# Altium schematic symbol library conn_terminalB.SchLib: 523 symbols (part 2 of 4)
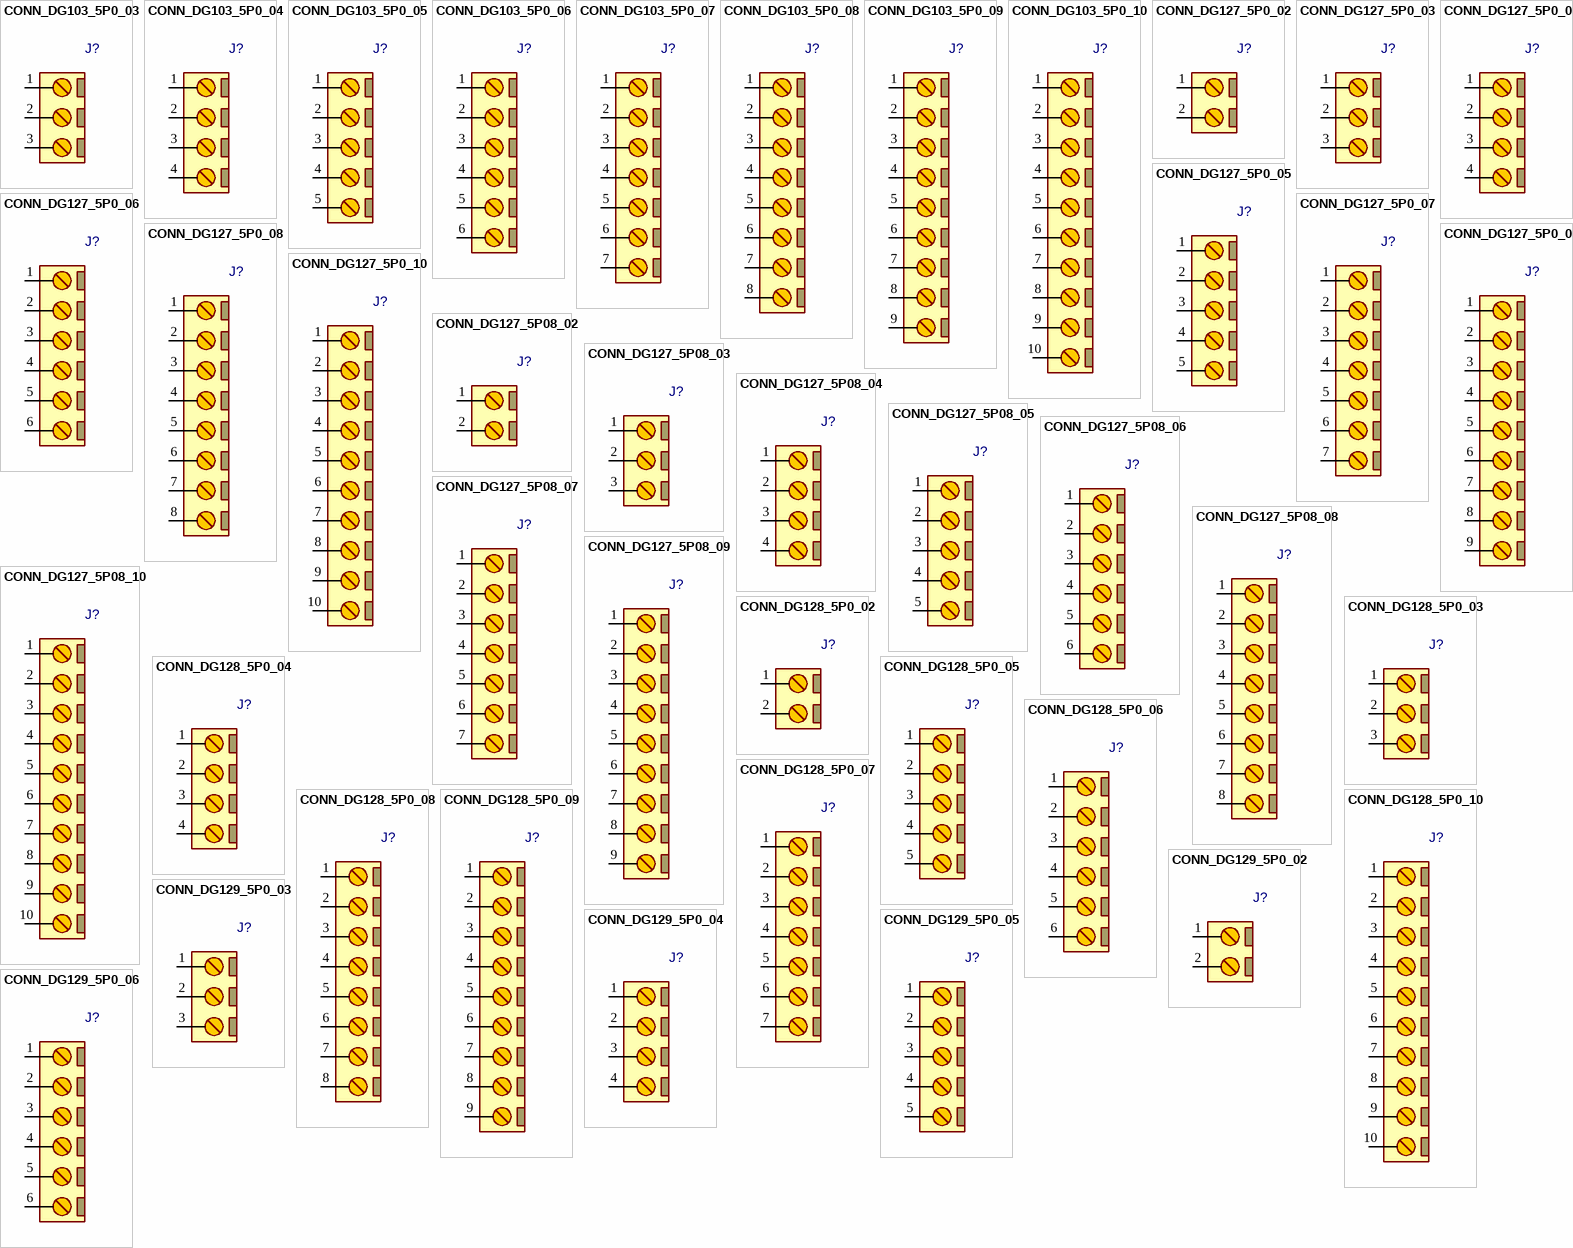
[diagram p14: symbols CONN_DG103_5P0_03 to CONN_DG129_5P0_06]

## CONN_DG103_5P0_07
designator J?, comment DG103_5P0_07  (value not drawn)
Terminal Block Screw, Pitch 5mm, 45°, H 13.8mm; MANF: DEGSON; MANF_P#: DG103-5.0-07P; PARAM2: 250v, -40~105°C; PARAM: 20A; VALUE: DG103_5P0_07; Mount Type: THT; Type: Conn.
footprint DG103_5P0_07 (Terminal Block 45° Screw, Pitch 5mm, L15mm)
pins: 1, 2, 3, 4, 5, 6, 7

## CONN_DG103_5P0_08
designator J?, comment DG103_5P0_08  (value not drawn)
Terminal Block Screw, Pitch 5mm, 45°, H 13.8mm; MANF: DEGSON; MANF_P#: DG103-5.0-08P; PARAM2: 250v, -40~105°C; PARAM: 20A; VALUE: DG103_5P0_08; Mount Type: THT; Type: Conn.
footprint DG103_5P0_08 (Terminal Block 45° Screw, Pitch 5mm, L15mm)
pins: 1, 2, 3, 4, 5, 6, 7, 8

## CONN_DG103_5P0_09
designator J?, comment DG103_5P0_09  (value not drawn)
Terminal Block Screw, Pitch 5mm, 45°, H 13.8mm; MANF: DEGSON; MANF_P#: DG103-5.0-09P; PARAM2: 250v, -40~105°C; PARAM: 20A; VALUE: DG103_5P0_09; Mount Type: THT; Type: Conn.
footprint DG103_5P0_09 (Terminal Block 45° Screw, Pitch 5mm, L15mm)
pins: 1, 2, 3, 4, 5, 6, 7, 8, 9

## CONN_DG103_5P0_10
designator J?, comment DG103_5P0_10  (value not drawn)
Terminal Block Screw, Pitch 5mm, 45°, H 13.8mm; MANF: DEGSON; MANF_P#: DG103-5.0-10P; PARAM2: 250v, -40~105°C; PARAM: 20A; VALUE: DG103_5P0_10; Mount Type: THT; Type: Conn.
footprint DG103_5P0_10 (Terminal Block 45° Screw, Pitch 5mm, L15mm)
pins: 1, 2, 3, 4, 5, 6, 7, 8, 9, 10

## CONN_DG127_5P0_02
designator J?, comment DG127_5P0_02  (value not drawn)
Terminal Block Screw, Pitch 5mm, H 10mm; MANF: DEGSON; MANF_P#: DG127-5.0-02P, KF127-5.0-2P; PARAM2: 250v, -40~105°C; PARAM: 12A; VALUE: DG127_5P0_02; Mount Type: THT; Type: Conn.
footprint DG127_5P0_02 (Terminal Block Screw, Pitch 5mm, H10mm, DG127-5.0-xxP)
pins: 1, 2

## CONN_DG127_5P0_03
designator J?, comment DG127_5P0_03  (value not drawn)
Terminal Block Screw, Pitch 5mm, H 10mm; MANF: DEGSON; MANF_P#: DG127-5.0-03P, KF127-5.0-3P; PARAM2: 250v, -40~105°C; PARAM: 12A; VALUE: DG127_5P0_03; Mount Type: THT; Type: Conn.
footprint DG127_5P0_03 (Terminal Block Screw, Pitch 5mm, H10mm, DG127-5.0-xxP)
pins: 1, 2, 3

## CONN_DG127_5P0_04
designator J?, comment DG127_5P0_04  (value not drawn)
Terminal Block Screw, Pitch 5mm, H 10mm; MANF: DEGSON; MANF_P#: DG127-5.0-04P, KF127-5.0-4P; PARAM2: 250v, -40~105°C; PARAM: 12A; VALUE: DG127_5P0_04; Mount Type: THT; Type: Conn.
footprint DG127_5P0_04 (Terminal Block Screw, Pitch 5mm, H10mm, DG127-5.0-xxP)
pins: 1, 2, 3, 4

## CONN_DG127_5P0_05
designator J?, comment DG127_5P0_05  (value not drawn)
Terminal Block Screw, Pitch 5mm, H 10mm; MANF: DEGSON; MANF_P#: DG127-5.0-05P, KF127-5.0-5P; PARAM2: 250v, -40~105°C; PARAM: 12A; VALUE: DG127_5P0_05; Mount Type: THT; Type: Conn.
footprint DG127_5P0_05 (Terminal Block Screw, Pitch 5mm, H10mm, DG127-5.0-xxP)
pins: 1, 2, 3, 4, 5

## CONN_DG127_5P0_06
designator J?, comment DG127_5P0_06  (value not drawn)
Terminal Block Screw, Pitch 5mm, H 10mm; MANF: DEGSON; MANF_P#: DG127-5.0-06P, KF127-5.0-6P; PARAM2: 250v, -40~105°C; PARAM: 12A; VALUE: DG127_5P0_06; Mount Type: THT; Type: Conn.
footprint DG127_5P0_06 (Terminal Block Screw, Pitch 5mm, H10mm, DG127-5.0-xxP)
pins: 1, 2, 3, 4, 5, 6

## CONN_DG127_5P0_07
designator J?, comment DG127_5P0_07  (value not drawn)
Terminal Block Screw, Pitch 5mm, H 10mm; MANF: DEGSON; MANF_P#: DG127-5.0-07P, KF127-5.0-7P; PARAM2: 250v, -40~105°C; PARAM: 12A; VALUE: DG127_5P0_07; Mount Type: THT; Type: Conn.
footprint DG127_5P0_07 (Terminal Block Screw, Pitch 5mm, H10mm, DG127-5.0-xxP)
pins: 1, 2, 3, 4, 5, 6, 7

## CONN_DG127_5P0_08
designator J?, comment DG127_5P0_08  (value not drawn)
Terminal Block Screw, Pitch 5mm, H 10mm; MANF: DEGSON; MANF_P#: DG127-5.0-08P, KF127-5.0-8P; PARAM2: 250v, -40~105°C; PARAM: 12A; VALUE: DG127_5P0_08; Mount Type: THT; Type: Conn.
footprint DG127_5P0_08 (Terminal Block Screw, Pitch 5mm, H10mm, DG127-5.0-xxP)
pins: 1, 2, 3, 4, 5, 6, 7, 8

## CONN_DG127_5P0_09
designator J?, comment DG127_5P0_09  (value not drawn)
Terminal Block Screw, Pitch 5mm, H 10mm; MANF: DEGSON; MANF_P#: DG127-5.0-09P, KF127-5.0-9P; PARAM2: 250v, -40~105°C; PARAM: 12A; VALUE: DG127_5P0_09; Mount Type: THT; Type: Conn.
footprint DG127_5P0_09 (Terminal Block Screw, Pitch 5mm, H10mm, DG127-5.0-xxP)
pins: 1, 2, 3, 4, 5, 6, 7, 8, 9

## CONN_DG127_5P0_10
designator J?, comment DG127_5P0_10  (value not drawn)
Terminal Block Screw, Pitch 5mm, H 10mm; MANF: DEGSON; MANF_P#: DG127-5.0-10P, KF127-5.0-10P; PARAM2: 250v, -40~105°C; PARAM: 12A; VALUE: DG127_5P0_10; Mount Type: THT; Type: Conn.
footprint DG127_5P0_10 (Terminal Block Screw, Pitch 5mm, H10mm, DG127-5.0-xxP)
pins: 1, 2, 3, 4, 5, 6, 7, 8, 9, 10

## CONN_DG127_5P08_02
designator J?, comment DG127_5P08_02  (value not drawn)
Terminal Block Screw, Pitch 5.08mm, H 10mm; MANF: DEGSON; MANF_P#: DG127-5.08-02P, KF127-5.08-2P; PARAM2: 250v, -40~105°C; PARAM: 12A; VALUE: DG127_5P08_02; Mount Type: THT; Type: Conn.
footprint DG127_5P08_02 (Terminal Block Screw, Pitch 5mm, H10mm, DG127-5.08-xxP)
pins: 1, 2

## CONN_DG127_5P08_03
designator J?, comment DG127_5P08_03  (value not drawn)
Terminal Block Screw, Pitch 5.08mm, H 10mm; MANF: DEGSON; MANF_P#: DG127-5.08-03P, KF127-5.08-3P; PARAM2: 250v, -40~105°C; PARAM: 12A; VALUE: DG127_5P08_03; Mount Type: THT; Type: Conn.
footprint DG127_5P08_03 (Terminal Block Screw, Pitch 5mm, H10mm, DG127-5.08-xxP)
pins: 1, 2, 3

## CONN_DG127_5P08_04
designator J?, comment DG127_5P08_04  (value not drawn)
Terminal Block Screw, Pitch 5.08mm, H 10mm; MANF: DEGSON; MANF_P#: DG127-5.08-04P, KF127-5.08-4P; PARAM2: 250v, -40~105°C; PARAM: 12A; VALUE: DG127_5P08_04; Mount Type: THT; Type: Conn.
footprint DG127_5P08_04 (Terminal Block Screw, Pitch 5mm, H10mm, DG127-5.08-xxP)
pins: 1, 2, 3, 4

## CONN_DG127_5P08_05
designator J?, comment DG127_5P08_05  (value not drawn)
Terminal Block Screw, Pitch 5.08mm, H 10mm; MANF: DEGSON; MANF_P#: DG127-5.08-05P, KF127-5.08-5P; PARAM2: 250v, -40~105°C; PARAM: 12A; VALUE: DG127_5P08_05; Mount Type: THT; Type: Conn.
footprint DG127_5P08_05 (Terminal Block Screw, Pitch 5mm, H10mm, DG127-5.08-xxP)
pins: 1, 2, 3, 4, 5

## CONN_DG127_5P08_06
designator J?, comment DG127_5P08_06  (value not drawn)
Terminal Block Screw, Pitch 5.08mm, H 10mm; MANF: DEGSON; MANF_P#: DG127-5.08-06P, KF127-5.08-6P; PARAM2: 250v, -40~105°C; PARAM: 12A; VALUE: DG127_5P08_06; Mount Type: THT; Type: Conn.
footprint DG127_5P08_06 (Terminal Block Screw, Pitch 5mm, H10mm, DG127-5.08-xxP)
pins: 1, 2, 3, 4, 5, 6

## CONN_DG127_5P08_07
designator J?, comment DG127_5P08_07  (value not drawn)
Terminal Block Screw, Pitch 5.08mm, H 10mm; MANF: DEGSON; MANF_P#: DG127-5.08-07P, KF127-5.08-7P; PARAM2: 250v, -40~105°C; PARAM: 12A; VALUE: DG127_5P08_07; Mount Type: THT; Type: Conn.
footprint DG127_5P08_07 (Terminal Block Screw, Pitch 5mm, H10mm, DG127-5.08-xxP)
pins: 1, 2, 3, 4, 5, 6, 7

## CONN_DG127_5P08_08
designator J?, comment DG127_5P08_08  (value not drawn)
Terminal Block Screw, Pitch 5.08mm, H 10mm; MANF: DEGSON; MANF_P#: DG127-5.08-08P, KF127-5.08-8P; PARAM2: 250v, -40~105°C; PARAM: 12A; VALUE: DG127_5P08_08; Mount Type: THT; Type: Conn.
footprint DG127_5P08_08 (Terminal Block Screw, Pitch 5mm, H10mm, DG127-5.08-xxP)
pins: 1, 2, 3, 4, 5, 6, 7, 8

## CONN_DG127_5P08_09
designator J?, comment DG127_5P08_09  (value not drawn)
Terminal Block Screw, Pitch 5.08mm, H 10mm; MANF: DEGSON; MANF_P#: DG127-5.08-09P, KF127-5.08-9P; PARAM2: 250v, -40~105°C; PARAM: 12A; VALUE: DG127_5P08_09; Mount Type: THT; Type: Conn.
footprint DG127_5P08_09 (Terminal Block Screw, Pitch 5mm, H10mm, DG127-5.08-xxP)
pins: 1, 2, 3, 4, 5, 6, 7, 8, 9

## CONN_DG127_5P08_10
designator J?, comment DG127_5P08_10  (value not drawn)
Terminal Block Screw, Pitch 5.08mm, H 10mm; MANF: DEGSON; MANF_P#: DG127-5.08-10P, KF127-5.08-10P; PARAM2: 250v, -40~105°C; PARAM: 12A; VALUE: DG127_5P08_10; Mount Type: THT; Type: Conn.
footprint DG127_5P08_10 (Terminal Block Screw, Pitch 5mm, H10mm, DG127-5.08-xxP)
pins: 1, 2, 3, 4, 5, 6, 7, 8, 9, 10

## CONN_DG128_5P0_02
designator J?, comment DG128_5P0_02  (value not drawn)
Terminal Block Screw, Pitch 5mm, H 14.1mm; MANF: DEGSON; MANF_P#: DG128-5.0-02P, KF128-5.0-2P; PARAM2: 250v, -40~105°C; PARAM: 18A; VALUE: DG128_5P0_02; Mount Type: THT; Type: Conn.
footprint DG128_5P0_02 (Terminal Block, Pitch 5mm, 20A/300v)
pins: 1, 2

## CONN_DG128_5P0_03
designator J?, comment DG128_5P0_03  (value not drawn)
Terminal Block Screw, Pitch 5mm, H 14.1mm; MANF: DEGSON; MANF_P#: DG128-5.0-03P, KF128-5.0-3P; PARAM2: 250v, -40~105°C; PARAM: 18A; VALUE: DG128_5P0_03; Mount Type: THT; Type: Conn.
footprint DG128_5P0_03 (Terminal Block, Pitch 5mm, 20A/300v)
pins: 1, 2, 3

## CONN_DG128_5P0_04
designator J?, comment DG128_5P0_04  (value not drawn)
Terminal Block Screw, Pitch 5mm, H 14.1mm; MANF: DEGSON; MANF_P#: DG128-5.0-04P, KF128-5.0-4P; PARAM2: 250v, -40~105°C; PARAM: 18A; VALUE: DG128_5P0_04; Mount Type: THT; Type: Conn.
footprint DG128_5P0_04 (Terminal Block, Pitch 5mm, 20A/300v)
pins: 1, 2, 3, 4

## CONN_DG128_5P0_05
designator J?, comment DG128_5P0_05  (value not drawn)
Terminal Block Screw, Pitch 5mm, H 14.1mm; MANF: DEGSON; MANF_P#: DG128-5.0-05P, KF128-5.0-5P; PARAM2: 250v, -40~105°C; PARAM: 18A; VALUE: DG128_5P0_05; Mount Type: THT; Type: Conn.
footprint DG128_5P0_05 (Terminal Block, Pitch 5mm, 20A/300v)
pins: 1, 2, 3, 4, 5

## CONN_DG128_5P0_06
designator J?, comment DG128_5P0_06  (value not drawn)
Terminal Block Screw, Pitch 5mm, H 14.1mm; MANF: DEGSON; MANF_P#: DG128-5.0-06P, KF128-5.0-6P; PARAM2: 250v, -40~105°C; PARAM: 18A; VALUE: DG128_5P0_06; Mount Type: THT; Type: Conn.
footprint DG128_5P0_06 (Terminal Block, Pitch 5mm, 20A/300v)
pins: 1, 2, 3, 4, 5, 6

## CONN_DG128_5P0_07
designator J?, comment DG128_5P0_07  (value not drawn)
Terminal Block Screw, Pitch 5mm, H 14.1mm; MANF: DEGSON; MANF_P#: DG128-5.0-07P, KF128-5.0-7P; PARAM2: 250v, -40~105°C; PARAM: 18A; VALUE: DG128_5P0_07; Mount Type: THT; Type: Conn.
footprint DG128_5P0_07 (Terminal Block, Pitch 5mm, 20A/300v)
pins: 1, 2, 3, 4, 5, 6, 7

## CONN_DG128_5P0_08
designator J?, comment DG128_5P0_08  (value not drawn)
Terminal Block Screw, Pitch 5mm, H 14.1mm; MANF: DEGSON; MANF_P#: DG128-5.0-08P, KF128-5.0-8P; PARAM2: 250v, -40~105°C; PARAM: 18A; VALUE: DG128_5P0_08; Mount Type: THT; Type: Conn.
footprint DG128_5P0_08 (Terminal Block, Pitch 5mm, 20A/300v)
pins: 1, 2, 3, 4, 5, 6, 7, 8

## CONN_DG128_5P0_09
designator J?, comment DG128_5P0_09  (value not drawn)
Terminal Block Screw, Pitch 5mm, H 14.1mm; MANF: DEGSON; MANF_P#: DG128-5.0-09P, KF128-5.0-9P; PARAM2: 250v, -40~105°C; PARAM: 18A; VALUE: DG128_5P0_09; Mount Type: THT; Type: Conn.
footprint DG128_5P0_09 (Terminal Block, Pitch 5mm, 20A/300v)
pins: 1, 2, 3, 4, 5, 6, 7, 8, 9

## CONN_DG128_5P0_10
designator J?, comment DG128_5P0_10  (value not drawn)
Terminal Block Screw, Pitch 5mm, H 14.1mm; MANF: DEGSON; MANF_P#: DG128-5.0-10P, KF128-5.0-10P; PARAM2: 250v, -40~105°C; PARAM: 18A; VALUE: DG128_5P0_10; Mount Type: THT; Type: Conn.
footprint DG128_5P0_10 (Terminal Block, Pitch 5mm, 20A/300v)
pins: 1, 2, 3, 4, 5, 6, 7, 8, 9, 10

## CONN_DG129_5P0_02
designator J?, comment DG129_5P0_02  (value not drawn)
Terminal Block Screw, Pitch 5mm, H 19.5mm; MANF: DEGSON; MANF_P#: DG129-5.0-02P, KF129-5.0-2P; PARAM2: 250v, -40~105°C; PARAM: 20A; VALUE: DG129_5P0_02; Mount Type: THT; Type: Conn.
footprint DG129_5P0_02 (Terminal Block Screw, Pitch 5mm, H20mm)
pins: 1, 2

## CONN_DG129_5P0_03
designator J?, comment DG129_5P0_03  (value not drawn)
Terminal Block Screw, Pitch 5mm, H 19.5mm; MANF: DEGSON; MANF_P#: DG129-5.0-03P, KF129-5.0-3P; PARAM2: 250v, -40~105°C; PARAM: 20A; VALUE: DG129_5P0_03; Mount Type: THT; Type: Conn.
footprint DG129_5P0_03 (Terminal Block Screw, Pitch 5mm, H20mm)
pins: 1, 2, 3

## CONN_DG129_5P0_04
designator J?, comment DG129_5P0_04  (value not drawn)
Terminal Block Screw, Pitch 5mm, H 19.5mm; MANF: DEGSON; MANF_P#: DG129-5.0-04P, KF129-5.0-4P; PARAM2: 250v, -40~105°C; PARAM: 20A; VALUE: DG129_5P0_04; Mount Type: THT; Type: Conn.
footprint DG129_5P0_04 (Terminal Block Screw, Pitch 5mm, H20mm)
pins: 1, 2, 3, 4

## CONN_DG129_5P0_05
designator J?, comment DG129_5P0_05  (value not drawn)
Terminal Block Screw, Pitch 5mm, H 19.5mm; MANF: DEGSON; MANF_P#: DG129-5.0-05P, KF129-5.0-5P; PARAM2: 250v, -40~105°C; PARAM: 20A; VALUE: DG129_5P0_05; Mount Type: THT; Type: Conn.
footprint DG129_5P0_05 (Terminal Block Screw, Pitch 5mm, H20mm)
pins: 1, 2, 3, 4, 5

## CONN_DG129_5P0_06
designator J?, comment DG129_5P0_06  (value not drawn)
Terminal Block Screw, Pitch 5mm, H 19.5mm; MANF: DEGSON; MANF_P#: DG129-5.0-06P, KF129-5.0-6P; PARAM2: 250v, -40~105°C; PARAM: 20A; VALUE: DG129_5P0_06; Mount Type: THT; Type: Conn.
footprint DG129_5P0_06 (Terminal Block Screw, Pitch 5mm, H20mm)
pins: 1, 2, 3, 4, 5, 6

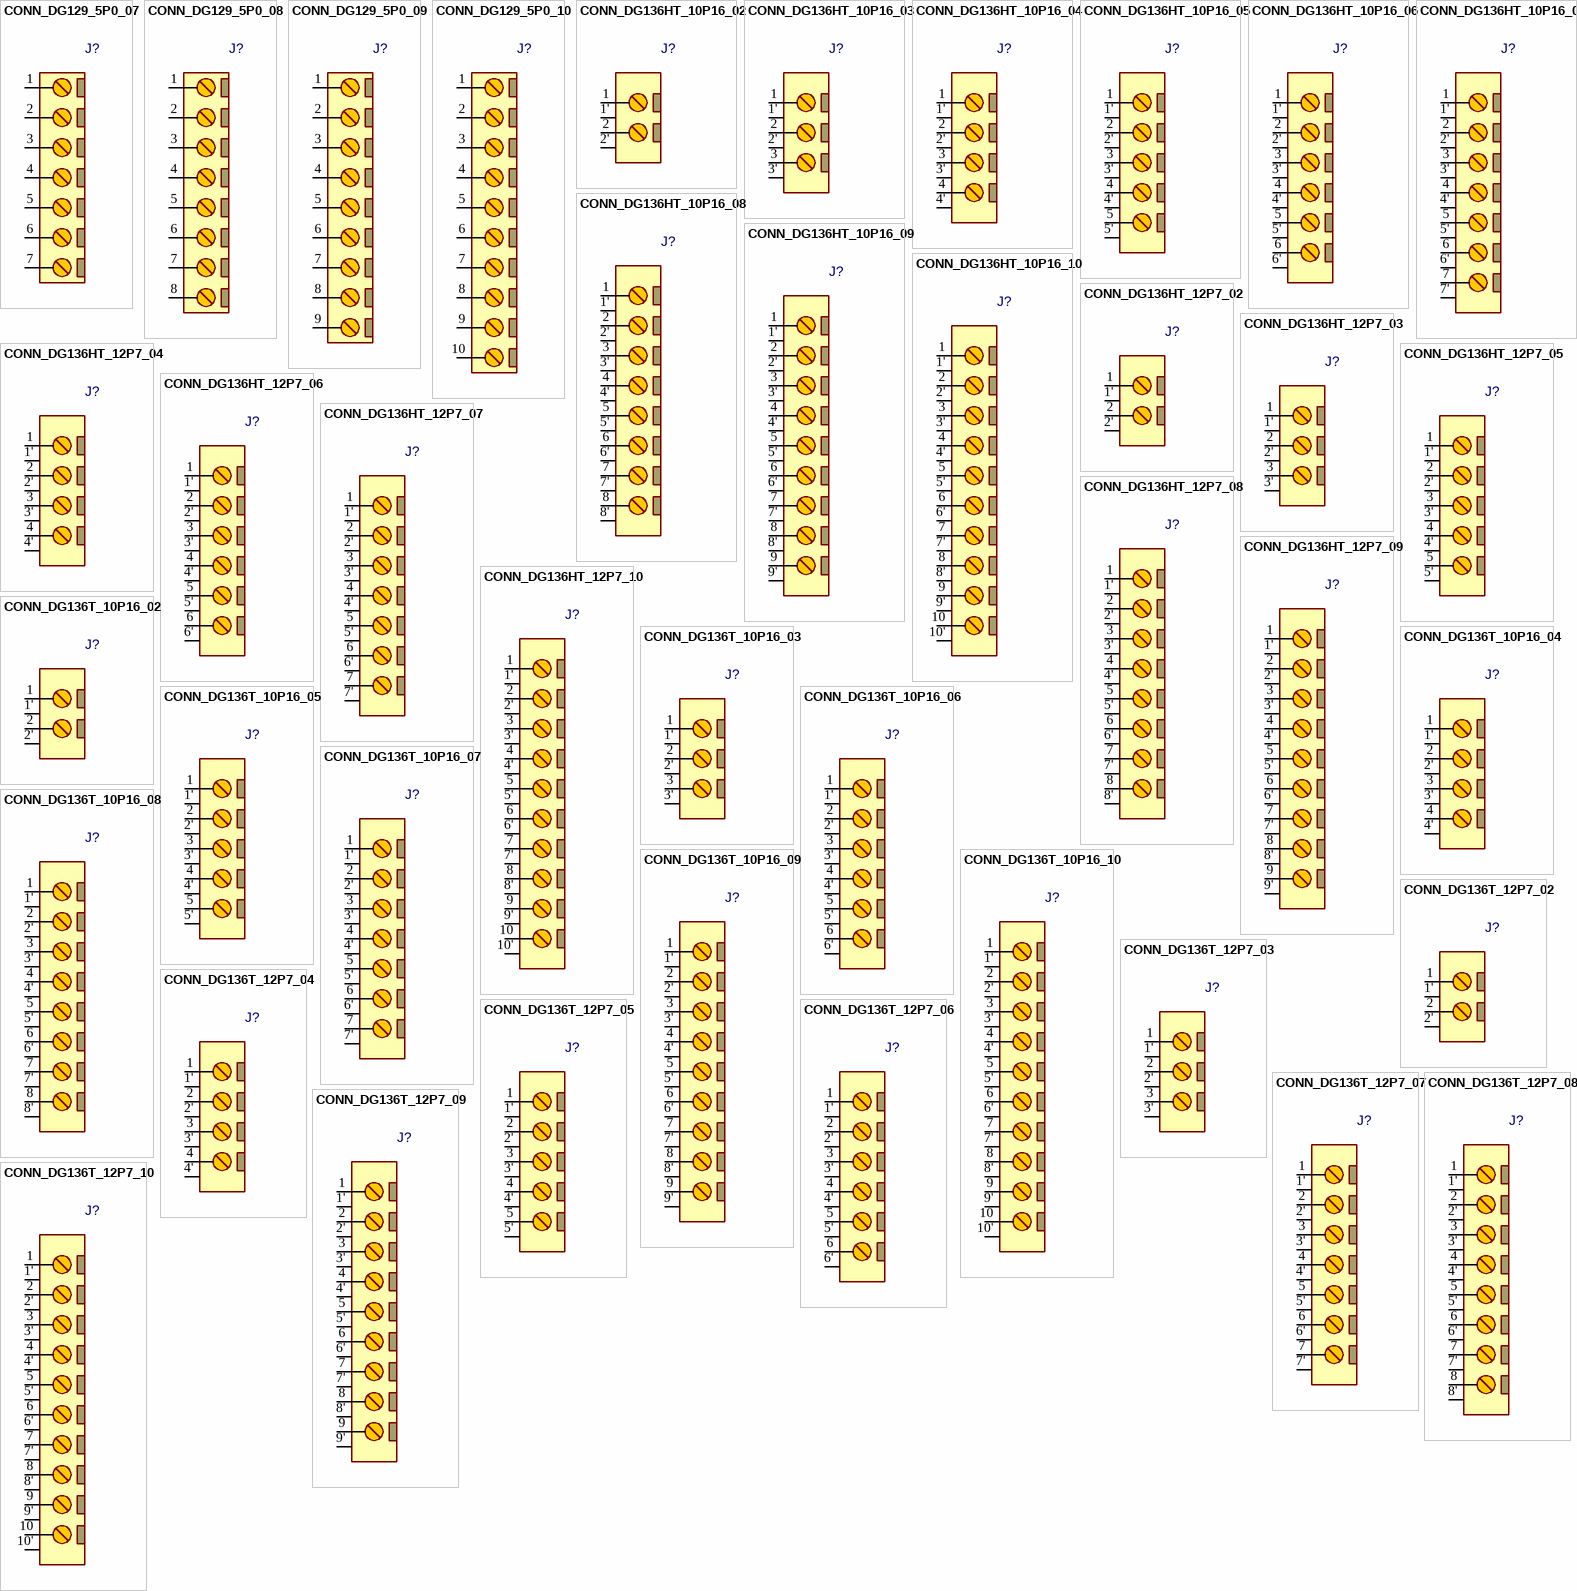
[diagram p4: symbols CONN_DG129_5P0_07 to CONN_DG136T_12P7_10]

## CONN_DG129_5P0_07
designator J?, comment DG129_5P0_07  (value not drawn)
Terminal Block Screw, Pitch 5mm, H 19.5mm; MANF: DEGSON; MANF_P#: DG129-5.0-07P, KF129-5.0-7P; PARAM2: 250v, -40~105°C; PARAM: 20A; VALUE: DG129_5P0_07; Mount Type: THT; Type: Conn.
footprint DG129_5P0_07 (Terminal Block Screw, Pitch 5mm, H20mm)
pins: 1, 2, 3, 4, 5, 6, 7

## CONN_DG129_5P0_08
designator J?, comment DG129_5P0_08  (value not drawn)
Terminal Block Screw, Pitch 5mm, H 19.5mm; MANF: DEGSON; MANF_P#: DG129-5.0-08P, KF129-5.0-8P; PARAM2: 250v, -40~105°C; PARAM: 20A; VALUE: DG129_5P0_08; Mount Type: THT; Type: Conn.
footprint DG129_5P0_08 (Terminal Block Screw, Pitch 5mm, H20mm)
pins: 1, 2, 3, 4, 5, 6, 7, 8

## CONN_DG129_5P0_09
designator J?, comment DG129_5P0_09  (value not drawn)
Terminal Block Screw, Pitch 5mm, H 19.5mm; MANF: DEGSON; MANF_P#: DG129-5.0-09P, KF129-5.0-9P; PARAM2: 250v, -40~105°C; PARAM: 20A; VALUE: DG129_5P0_09; Mount Type: THT; Type: Conn.
footprint DG129_5P0_09 (Terminal Block Screw, Pitch 5mm, H20mm)
pins: 1, 2, 3, 4, 5, 6, 7, 8, 9

## CONN_DG129_5P0_10
designator J?, comment DG129_5P0_10  (value not drawn)
Terminal Block Screw, Pitch 5mm, H 19.5mm; MANF: DEGSON; MANF_P#: DG129-5.0-10P, KF129-5.0-10P; PARAM2: 250v, -40~105°C; PARAM: 20A; VALUE: DG129_5P0_10; Mount Type: THT; Type: Conn.
footprint DG129_5P0_10 (Terminal Block Screw, Pitch 5mm, H20mm)
pins: 1, 2, 3, 4, 5, 6, 7, 8, 9, 10

## CONN_DG136HT_10P16_02
designator J?, comment DG136HT_10P16_02  (value not drawn)
Terminal Block Screw, Pitch 10.16mm, H 30.8mm, 300v/60A; MANF: DEGSON; MANF_P#: DG136HT-10.16-02P, KF136HT-10.16-2P; PARAM2: 300v, -40~105°C; PARAM: 60A; VALUE: DG136HT_10P16_02; Mount Type: THT; Type: Conn.
footprint DG136HT_10P16_02 (Terminal Block Screw, Pitch 10.16mm, 60A/300v)
pins: 1, 1' 1, 2, 2' 2

## CONN_DG136HT_10P16_03
designator J?, comment DG136HT_10P16_03  (value not drawn)
Terminal Block Screw, Pitch 10.16mm, H 30.8mm, 300v/60A; MANF: DEGSON; MANF_P#: DG136HT-10.16-03P, KF136HT-10.16-3P; PARAM2: 300v, -40~105°C; PARAM: 60A; VALUE: DG136HT_10P16_03; Mount Type: THT; Type: Conn.
footprint DG136HT_10P16_03 (Terminal Block Screw, Pitch 10.16mm, 60A/300v)
pins: 1, 1' 1, 2, 2' 2, 3, 3' 3

## CONN_DG136HT_10P16_04
designator J?, comment DG136HT_10P16_04  (value not drawn)
Terminal Block Screw, Pitch 10.16mm, H 30.8mm, 300v/60A; MANF: DEGSON; MANF_P#: DG136HT-10.16-04P, KF136HT-10.16-4P; PARAM2: 300v, -40~105°C; PARAM: 60A; VALUE: DG136HT_10P16_04; Mount Type: THT; Type: Conn.
footprint DG136HT_10P16_04 (Terminal Block Screw, Pitch 10.16mm, 60A/300v)
pins: 1, 1' 1, 2, 2' 2, 3, 3' 3, 4, 4' 4

## CONN_DG136HT_10P16_05
designator J?, comment DG136HT_10P16_05  (value not drawn)
Terminal Block Screw, Pitch 10.16mm, H 30.8mm, 300v/60A; MANF: DEGSON; MANF_P#: DG136HT-10.16-05P, KF136HT-10.16-5P; PARAM2: 300v, -40~105°C; PARAM: 60A; VALUE: DG136HT_10P16_05; Mount Type: THT; Type: Conn.
footprint DG136HT_10P16_05 (Terminal Block Screw, Pitch 10.16mm, 60A/300v)
pins: 1, 1' 1, 2, 2' 2, 3, 3' 3, 4, 4' 4, 5, 5' 5

## CONN_DG136HT_10P16_06
designator J?, comment DG136HT_10P16_06  (value not drawn)
Terminal Block Screw, Pitch 10.16mm, H 30.8mm, 300v/60A; MANF: DEGSON; MANF_P#: DG136HT-10.16-06P, KF136HT-10.16-6P; PARAM2: 300v, -40~105°C; PARAM: 60A; VALUE: DG136HT_10P16_06; Mount Type: THT; Type: Conn.
footprint DG136HT_10P16_06 (Terminal Block Screw, Pitch 10.16mm, 60A/300v)
pins: 1, 1' 1, 2, 2' 2, 3, 3' 3, 4, 4' 4, 5, 5' 5, 6, 6' 6

## CONN_DG136HT_10P16_07
designator J?, comment DG136HT_10P16_07  (value not drawn)
Terminal Block Screw, Pitch 10.16mm, H 30.8mm, 300v/60A; MANF: DEGSON; MANF_P#: DG136HT-10.16-07P, KF136HT-10.16-7P; PARAM2: 300v, -40~105°C; PARAM: 60A; VALUE: DG136HT_10P16_07; Mount Type: THT; Type: Conn.
footprint DG136HT_10P16_07 (Terminal Block Screw, Pitch 10.16mm, 60A/300v)
pins: 1, 1' 1, 2, 2' 2, 3, 3' 3, 4, 4' 4, 5, 5' 5, 6, 6' 6, 7, 7' 7

## CONN_DG136HT_10P16_08
designator J?, comment DG136HT_10P16_08  (value not drawn)
Terminal Block Screw, Pitch 10.16mm, H 30.8mm, 300v/60A; MANF: DEGSON; MANF_P#: DG136HT-10.16-08P, KF136HT-10.16-8P; PARAM2: 300v, -40~105°C; PARAM: 60A; VALUE: DG136HT_10P16_08; Mount Type: THT; Type: Conn.
footprint DG136HT_10P16_08 (Terminal Block Screw, Pitch 10.16mm, 60A/300v)
pins: 1, 1' 1, 2, 2' 2, 3, 3' 3, 4, 4' 4, 5, 5' 5, 6, 6' 6, 7, 7' 7, 8, 8' 8

## CONN_DG136HT_10P16_09
designator J?, comment DG136HT_10P16_09  (value not drawn)
Terminal Block Screw, Pitch 10.16mm, H 30.8mm, 300v/60A; MANF: DEGSON; MANF_P#: DG136HT-10.16-09P, KF136HT-10.16-9P; PARAM2: 300v, -40~105°C; PARAM: 60A; VALUE: DG136HT_10P16_09; Mount Type: THT; Type: Conn.
footprint DG136HT_10P16_09 (Terminal Block Screw, Pitch 10.16mm, 60A/300v)
pins: 1, 1' 1, 2, 2' 2, 3, 3' 3, 4, 4' 4, 5, 5' 5, 6, 6' 6, 7, 7' 7, 8, 8' 8, 9, 9' 9

## CONN_DG136HT_10P16_10
designator J?, comment DG136HT_10P16_10  (value not drawn)
Terminal Block Screw, Pitch 10.16mm, H 30.8mm, 300v/60A; MANF: DEGSON; MANF_P#: DG136HT-10.16-10P, KF136HT-10.16-10P; PARAM2: 300v, -40~105°C; PARAM: 60A; VALUE: DG136HT_10P16_10; Mount Type: THT; Type: Conn.
footprint DG136HT_10P16_10 (Terminal Block Screw, Pitch 10.16mm, 60A/300v)
pins: 1, 1' 1, 2, 2' 2, 3, 3' 3, 4, 4' 4, 5, 5' 5, 6, 6' 6, 7, 7' 7, 8, 8' 8, 9, 9' 9, 10, 10' 10

## CONN_DG136HT_12P7_02
designator J?, comment DG136HT_12P7_02  (value not drawn)
Terminal Block Screw, Pitch 12.7mm, H 30.8mm, 600v/60A; MANF: DEGSON; MANF_P#: DG136HT-12.7-02P; PARAM2: 600v, -40~105°C; PARAM: 60A; VALUE: DG136HT_12P7_02; Mount Type: THT; Type: Conn.
footprint DG136HT_12P7_02 (Terminal Block Screw, Pitch 12.7mm, 60A/600v)
pins: 1, 1' 1, 2, 2' 2

## CONN_DG136HT_12P7_03
designator J?, comment DG136HT_12P7_03  (value not drawn)
Terminal Block Screw, Pitch 12.7mm, H 30.8mm, 600v/60A; MANF: DEGSON; MANF_P#: DG136HT-12.7-03P; PARAM2: 600v, -40~105°C; PARAM: 60A; VALUE: DG136HT_12P7_03; Mount Type: THT; Type: Conn.
footprint DG136HT_12P7_03 (Terminal Block Screw, Pitch 12.7mm, 60A/600v)
pins: 1, 1' 1, 2, 2' 2, 3, 3' 3

## CONN_DG136HT_12P7_04
designator J?, comment DG136HT_12P7_04  (value not drawn)
Terminal Block Screw, Pitch 12.7mm, H 30.8mm, 600v/60A; MANF: DEGSON; MANF_P#: DG136HT-12.7-04P; PARAM2: 600v, -40~105°C; PARAM: 60A; VALUE: DG136HT_12P7_04; Mount Type: THT; Type: Conn.
footprint DG136HT_12P7_04 (Terminal Block Screw, Pitch 12.7mm, 60A/600v)
pins: 1, 1' 1, 2, 2' 2, 3, 3' 3, 4, 4' 4

## CONN_DG136HT_12P7_05
designator J?, comment DG136HT_12P7_05  (value not drawn)
Terminal Block Screw, Pitch 12.7mm, H 30.8mm, 600v/60A; MANF: DEGSON; MANF_P#: DG136HT-12.7-05P; PARAM2: 600v, -40~105°C; PARAM: 60A; VALUE: DG136HT_12P7_05; Mount Type: THT; Type: Conn.
footprint DG136HT_12P7_05 (Terminal Block Screw, Pitch 12.7mm, 60A/600v)
pins: 1, 1' 1, 2, 2' 2, 3, 3' 3, 4, 4' 4, 5, 5' 5

## CONN_DG136HT_12P7_06
designator J?, comment DG136HT_12P7_06  (value not drawn)
Terminal Block Screw, Pitch 12.7mm, H 30.8mm, 600v/60A; MANF: DEGSON; MANF_P#: DG136HT-12.7-06P; PARAM2: 600v, -40~105°C; PARAM: 60A; VALUE: DG136HT_12P7_06; Mount Type: THT; Type: Conn.
footprint DG136HT_12P7_06 (Terminal Block Screw, Pitch 12.7mm, 60A/600v)
pins: 1, 1' 1, 2, 2' 2, 3, 3' 3, 4, 4' 4, 5, 5' 5, 6, 6' 6

## CONN_DG136HT_12P7_07
designator J?, comment DG136HT_12P7_07  (value not drawn)
Terminal Block Screw, Pitch 12.7mm, H 30.8mm, 600v/60A; MANF: DEGSON; MANF_P#: DG136HT-12.7-07P; PARAM2: 600v, -40~105°C; PARAM: 60A; VALUE: DG136HT_12P7_07; Mount Type: THT; Type: Conn.
footprint DG136HT_12P7_07 (Terminal Block Screw, Pitch 12.7mm, 60A/600v)
pins: 1, 1' 1, 2, 2' 2, 3, 3' 3, 4, 4' 4, 5, 5' 5, 6, 6' 6, 7, 7' 7

## CONN_DG136HT_12P7_08
designator J?, comment DG136HT_12P7_08  (value not drawn)
Terminal Block Screw, Pitch 12.7mm, H 30.8mm, 600v/60A; MANF: DEGSON; MANF_P#: DG136HT-12.7-08P; PARAM2: 600v, -40~105°C; PARAM: 60A; VALUE: DG136HT_12P7_08; Mount Type: THT; Type: Conn.
footprint DG136HT_12P7_08 (Terminal Block Screw, Pitch 12.7mm, 60A/600v)
pins: 1, 1' 1, 2, 2' 2, 3, 3' 3, 4, 4' 4, 5, 5' 5, 6, 6' 6, 7, 7' 7, 8, 8' 8

## CONN_DG136HT_12P7_09
designator J?, comment DG136HT_12P7_09  (value not drawn)
Terminal Block Screw, Pitch 12.7mm, H 30.8mm, 600v/60A; MANF: DEGSON; MANF_P#: DG136HT-12.7-09P; PARAM2: 600v, -40~105°C; PARAM: 60A; VALUE: DG136HT_12P7_09; Mount Type: THT; Type: Conn.
footprint DG136HT_12P7_09 (Terminal Block Screw, Pitch 12.7mm, 60A/600v)
pins: 1, 1' 1, 2, 2' 2, 3, 3' 3, 4, 4' 4, 5, 5' 5, 6, 6' 6, 7, 7' 7, 8, 8' 8, 9, 9' 9

## CONN_DG136HT_12P7_10
designator J?, comment DG136HT_12P7_10  (value not drawn)
Terminal Block Screw, Pitch 12.7mm, H 30.8mm, 600v/60A; MANF: DEGSON; MANF_P#: DG136HT-12.7-10P; PARAM2: 600v, -40~105°C; PARAM: 60A; VALUE: DG136HT_12P7_10; Mount Type: THT; Type: Conn.
footprint DG136HT_12P7_10 (Terminal Block Screw, Pitch 12.7mm, 60A/600v)
pins: 1, 1' 1, 2, 2' 2, 3, 3' 3, 4, 4' 4, 5, 5' 5, 6, 6' 6, 7, 7' 7, 8, 8' 8, 9, 9' 9, 10, 10' 10

## CONN_DG136T_10P16_02
designator J?, comment DG136T_10P16_02  (value not drawn)
Terminal Block Screw, Pitch 10.16mm, H 29.3mm, 300v/60A; MANF: DEGSON; MANF_P#: DG136T-10.16-02P; PARAM2: 300v, -40~105°C; PARAM: 60A; VALUE: DG136T_10P16_02; Mount Type: THT; Type: Conn.
footprint DG136HT_10P16_02 (Terminal Block Screw, Pitch 10.16mm, 60A/300v)
pins: 1, 1' 1, 2, 2' 2

## CONN_DG136T_10P16_03
designator J?, comment DG136T_10P16_03  (value not drawn)
Terminal Block Screw, Pitch 10.16mm, H 29.3mm, 300v/60A; MANF: DEGSON; MANF_P#: DG136T-10.16-03P; PARAM2: 300v, -40~105°C; PARAM: 60A; VALUE: DG136T_10P16_03; Mount Type: THT; Type: Conn.
footprint DG136HT_10P16_03 (Terminal Block Screw, Pitch 10.16mm, 60A/300v)
pins: 1, 1' 1, 2, 2' 2, 3, 3' 3

## CONN_DG136T_10P16_04
designator J?, comment DG136T_10P16_04  (value not drawn)
Terminal Block Screw, Pitch 10.16mm, H 29.3mm, 300v/60A; MANF: DEGSON; MANF_P#: DG136T-10.16-04P; PARAM2: 300v, -40~105°C; PARAM: 60A; VALUE: DG136T_10P16_04; Mount Type: THT; Type: Conn.
footprint DG136HT_10P16_04 (Terminal Block Screw, Pitch 10.16mm, 60A/300v)
pins: 1, 1' 1, 2, 2' 2, 3, 3' 3, 4, 4' 4

## CONN_DG136T_10P16_05
designator J?, comment DG136T_10P16_05  (value not drawn)
Terminal Block Screw, Pitch 10.16mm, H 29.3mm, 300v/60A; MANF: DEGSON; MANF_P#: DG136T-10.16-05P; PARAM2: 300v, -40~105°C; PARAM: 60A; VALUE: DG136T_10P16_05; Mount Type: THT; Type: Conn.
footprint DG136HT_10P16_05 (Terminal Block Screw, Pitch 10.16mm, 60A/300v)
pins: 1, 1' 1, 2, 2' 2, 3, 3' 3, 4, 4' 4, 5, 5' 5

## CONN_DG136T_10P16_06
designator J?, comment DG136T_10P16_06  (value not drawn)
Terminal Block Screw, Pitch 10.16mm, H 29.3mm, 300v/60A; MANF: DEGSON; MANF_P#: DG136T-10.16-06P; PARAM2: 300v, -40~105°C; PARAM: 60A; VALUE: DG136T_10P16_06; Mount Type: THT; Type: Conn.
footprint DG136HT_10P16_06 (Terminal Block Screw, Pitch 10.16mm, 60A/300v)
pins: 1, 1' 1, 2, 2' 2, 3, 3' 3, 4, 4' 4, 5, 5' 5, 6, 6' 6

## CONN_DG136T_10P16_07
designator J?, comment DG136T_10P16_07  (value not drawn)
Terminal Block Screw, Pitch 10.16mm, H 29.3mm, 300v/60A; MANF: DEGSON; MANF_P#: DG136T-10.16-07P; PARAM2: 300v, -40~105°C; PARAM: 60A; VALUE: DG136T_10P16_07; Mount Type: THT; Type: Conn.
footprint DG136HT_10P16_07 (Terminal Block Screw, Pitch 10.16mm, 60A/300v)
pins: 1, 1' 1, 2, 2' 2, 3, 3' 3, 4, 4' 4, 5, 5' 5, 6, 6' 6, 7, 7' 7

## CONN_DG136T_10P16_08
designator J?, comment DG136T_10P16_08  (value not drawn)
Terminal Block Screw, Pitch 10.16mm, H 29.3mm, 300v/60A; MANF: DEGSON; MANF_P#: DG136T-10.16-08P; PARAM2: 300v, -40~105°C; PARAM: 60A; VALUE: DG136T_10P16_08; Mount Type: THT; Type: Conn.
footprint DG136HT_10P16_08 (Terminal Block Screw, Pitch 10.16mm, 60A/300v)
pins: 1, 1' 1, 2, 2' 2, 3, 3' 3, 4, 4' 4, 5, 5' 5, 6, 6' 6, 7, 7' 7, 8, 8' 8

## CONN_DG136T_10P16_09
designator J?, comment DG136T_10P16_09  (value not drawn)
Terminal Block Screw, Pitch 10.16mm, H 29.3mm, 300v/60A; MANF: DEGSON; MANF_P#: DG136T-10.16-09P; PARAM2: 300v, -40~105°C; PARAM: 60A; VALUE: DG136T_10P16_09; Mount Type: THT; Type: Conn.
footprint DG136HT_10P16_09 (Terminal Block Screw, Pitch 10.16mm, 60A/300v)
pins: 1, 1' 1, 2, 2' 2, 3, 3' 3, 4, 4' 4, 5, 5' 5, 6, 6' 6, 7, 7' 7, 8, 8' 8, 9, 9' 9

## CONN_DG136T_10P16_10
designator J?, comment DG136T_10P16_10  (value not drawn)
Terminal Block Screw, Pitch 10.16mm, H 29.3mm, 300v/60A; MANF: DEGSON; MANF_P#: DG136T-10.16-10P; PARAM2: 300v, -40~105°C; PARAM: 60A; VALUE: DG136T_10P16_10; Mount Type: THT; Type: Conn.
footprint DG136HT_10P16_10 (Terminal Block Screw, Pitch 10.16mm, 60A/300v)
pins: 1, 1' 1, 2, 2' 2, 3, 3' 3, 4, 4' 4, 5, 5' 5, 6, 6' 6, 7, 7' 7, 8, 8' 8, 9, 9' 9, 10, 10' 10

## CONN_DG136T_12P7_02
designator J?, comment DG136T_12P7_02  (value not drawn)
Terminal Block Screw, Pitch 12.7mm, H 29.3mm, 600v/60A; MANF: DEGSON; MANF_P#: DG136T-12.7-02P; PARAM2: 600v, -40~105°C; PARAM: 60A; VALUE: DG136T_12P7_02; Mount Type: THT; Type: Conn.
footprint DG136T_12P7_02 (Terminal Block Screw, Pitch 12.7mm, 60A/600v)
pins: 1, 1' 1, 2, 2' 2

## CONN_DG136T_12P7_03
designator J?, comment DG136T_12P7_03  (value not drawn)
Terminal Block Screw, Pitch 12.7mm, H 29.3mm, 600v/60A; MANF: DEGSON; MANF_P#: DG136T-12.7-03P; PARAM2: 600v, -40~105°C; PARAM: 60A; VALUE: DG136T_12P7_03; Mount Type: THT; Type: Conn.
footprint DG136T_12P7_03 (Terminal Block Screw, Pitch 12.7mm, 60A/600v)
pins: 1, 1' 1, 2, 2' 2, 3, 3' 3

## CONN_DG136T_12P7_04
designator J?, comment DG136T_12P7_04  (value not drawn)
Terminal Block Screw, Pitch 12.7mm, H 29.3mm, 600v/60A; MANF: DEGSON; MANF_P#: DG136T-12.7-04P; PARAM2: 600v, -40~105°C; PARAM: 60A; VALUE: DG136T_12P7_04; Mount Type: THT; Type: Conn.
footprint DG136T_12P7_04 (Terminal Block Screw, Pitch 12.7mm, 60A/600v)
pins: 1, 1' 1, 2, 2' 2, 3, 3' 3, 4, 4' 4

## CONN_DG136T_12P7_05
designator J?, comment DG136T_12P7_05  (value not drawn)
Terminal Block Screw, Pitch 12.7mm, H 29.3mm, 600v/60A; MANF: DEGSON; MANF_P#: DG136T-12.7-05P; PARAM2: 600v, -40~105°C; PARAM: 60A; VALUE: DG136T_12P7_05; Mount Type: THT; Type: Conn.
footprint DG136T_12P7_05 (Terminal Block Screw, Pitch 12.7mm, 60A/600v)
pins: 1, 1' 1, 2, 2' 2, 3, 3' 3, 4, 4' 4, 5, 5' 5

## CONN_DG136T_12P7_06
designator J?, comment DG136T_12P7_06  (value not drawn)
Terminal Block Screw, Pitch 12.7mm, H 29.3mm, 600v/60A; MANF: DEGSON; MANF_P#: DG136T-12.7-06P; PARAM2: 600v, -40~105°C; PARAM: 60A; VALUE: DG136T_12P7_06; Mount Type: THT; Type: Conn.
footprint DG136T_12P7_06 (Terminal Block Screw, Pitch 12.7mm, 60A/600v)
pins: 1, 1' 1, 2, 2' 2, 3, 3' 3, 4, 4' 4, 5, 5' 5, 6, 6' 6

## CONN_DG136T_12P7_07
designator J?, comment DG136T_12P7_07  (value not drawn)
Terminal Block Screw, Pitch 12.7mm, H 29.3mm, 600v/60A; MANF: DEGSON; MANF_P#: DG136T-12.7-07P; PARAM2: 600v, -40~105°C; PARAM: 60A; VALUE: DG136T_12P7_07; Mount Type: THT; Type: Conn.
footprint DG136T_12P7_07 (Terminal Block Screw, Pitch 12.7mm, 60A/600v)
pins: 1, 1' 1, 2, 2' 2, 3, 3' 3, 4, 4' 4, 5, 5' 5, 6, 6' 6, 7, 7' 7

## CONN_DG136T_12P7_08
designator J?, comment DG136T_12P7_08  (value not drawn)
Terminal Block Screw, Pitch 12.7mm, H 29.3mm, 600v/60A; MANF: DEGSON; MANF_P#: DG136T-12.7-08P; PARAM2: 600v, -40~105°C; PARAM: 60A; VALUE: DG136T_12P7_08; Mount Type: THT; Type: Conn.
footprint DG136T_12P7_08 (Terminal Block Screw, Pitch 12.7mm, 60A/600v)
pins: 1, 1' 1, 2, 2' 2, 3, 3' 3, 4, 4' 4, 5, 5' 5, 6, 6' 6, 7, 7' 7, 8, 8' 8

## CONN_DG136T_12P7_09
designator J?, comment DG136T_12P7_09  (value not drawn)
Terminal Block Screw, Pitch 12.7mm, H 29.3mm, 600v/60A; MANF: DEGSON; MANF_P#: DG136T-12.7-09P; PARAM2: 600v, -40~105°C; PARAM: 60A; VALUE: DG136T_12P7_09; Mount Type: THT; Type: Conn.
footprint DG136T_12P7_09 (Terminal Block Screw, Pitch 12.7mm, 60A/600v)
pins: 1, 1' 1, 2, 2' 2, 3, 3' 3, 4, 4' 4, 5, 5' 5, 6, 6' 6, 7, 7' 7, 8, 8' 8, 9, 9' 9

## CONN_DG136T_12P7_10
designator J?, comment DG136T_12P7_10  (value not drawn)
Terminal Block Screw, Pitch 12.7mm, H 29.3mm, 600v/60A; MANF: DEGSON; MANF_P#: DG136T-12.7-10P; PARAM2: 600v, -40~105°C; PARAM: 60A; VALUE: DG136T_12P7_10; Mount Type: THT; Type: Conn.
footprint DG136T_12P7_10 (Terminal Block Screw, Pitch 12.7mm, 60A/600v)
pins: 1, 1' 1, 2, 2' 2, 3, 3' 3, 4, 4' 4, 5, 5' 5, 6, 6' 6, 7, 7' 7, 8, 8' 8, 9, 9' 9, 10, 10' 10

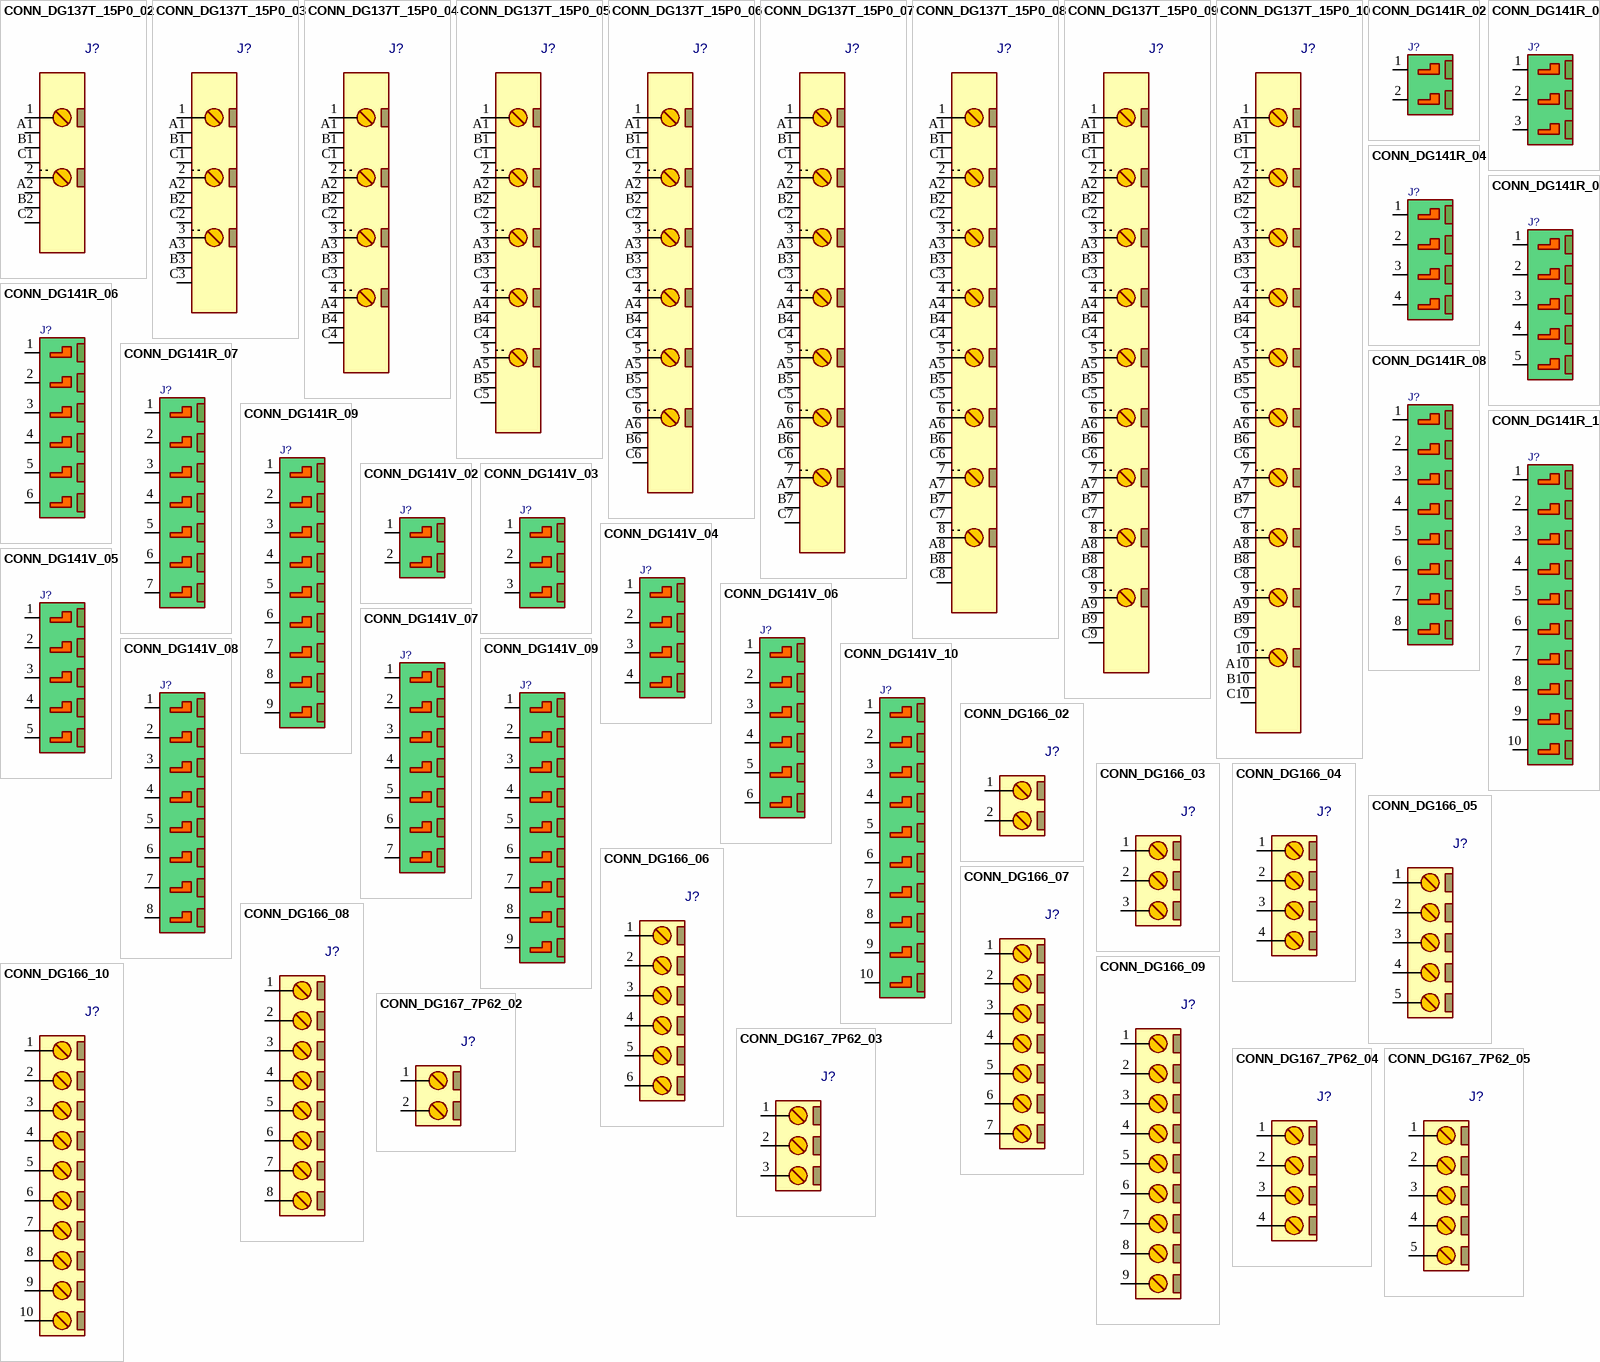
[diagram p5: symbols CONN_DG137T_15P0_02 to CONN_DG167_7P62_05]

## CONN_DG137T_15P0_02
designator J?, comment DG137T_15P0_02  (value not drawn)
Terminal Block Screw, Pitch 15mm, H 39mm, 600v/115A; MANF: DEGSON; MANF_P#: DG137T-15.0-02P, KF137T-15.0-2P, MKDSP 25/ 2-15,00; PARAM2: 600v, -40~105°C; PARAM: 115A; VALUE: DG137T_15P0_02; Mount Type: THT; Type: Conn.
footprint DG137T_15P0_02 (Terminal Block Screw, Pitch 15mm, 115A/600v)
pins: 1, 2, A1 1, A2 2, B1 1, B2 2, C1 1, C2 2

## CONN_DG137T_15P0_03
designator J?, comment DG137T_15P0_03  (value not drawn)
Terminal Block Screw, Pitch 15mm, H 39mm, 600v/115A; MANF: DEGSON; MANF_P#: DG137T-15.0-03P, KF137T-15.0-3P, MKDSP 25/ 3-15,00; PARAM2: 600v, -40~105°C; PARAM: 115A; VALUE: DG137T_15P0_03; Mount Type: THT; Type: Conn.
footprint DG137T_15P0_03 (Terminal Block Screw, Pitch 15mm, 115A/600v)
pins: 1, 2, 3, A1 1, A2 2, A3 3, B1 1, B2 2, B3 3, C1 1, C2 2, C3 3

## CONN_DG137T_15P0_04
designator J?, comment DG137T_15P0_04  (value not drawn)
Terminal Block Screw, Pitch 15mm, H 39mm, 600v/115A; MANF: DEGSON; MANF_P#: DG137T-15.0-04P, KF137T-15.0-4P, MKDSP 25/ 4-15,00; PARAM2: 600v, -40~105°C; PARAM: 115A; VALUE: DG137T_15P0_04; Mount Type: THT; Type: Conn.
footprint DG137T_15P0_04 (Terminal Block Screw, Pitch 15mm, 115A/600v)
pins: 1, 2, 3, 4, A1 1, A2 2, A3 3, A4 4, B1 1, B2 2, B3 3, B4 4, C1 1, C2 2, C3 3, C4 4

## CONN_DG137T_15P0_05
designator J?, comment DG137T_15P0_05  (value not drawn)
Terminal Block Screw, Pitch 15mm, H 39mm, 600v/115A; MANF: DEGSON; MANF_P#: DG137T-15.0-05P, KF137T-15.0-5P, MKDSP 25/ 5-15,00; PARAM2: 600v, -40~105°C; PARAM: 115A; VALUE: DG137T_15P0_05; Mount Type: THT; Type: Conn.
footprint DG137T_15P0_05 (Terminal Block Screw, Pitch 15mm, 115A/600v)
pins: 1, 2, 3, 4, 5, A1 1, A2 2, A3 3, A4 4, A5 5, B1 1, B2 2, B3 3, B4 4, B5 5, C1 1, C2 2, C3 3, C4 4, C5 5

## CONN_DG137T_15P0_06
designator J?, comment DG137T_15P0_06  (value not drawn)
Terminal Block Screw, Pitch 15mm, H 39mm, 600v/115A; MANF: DEGSON; MANF_P#: DG137T-15.0-06P, KF137T-15.0-6P, MKDSP 25/ 6-15,00; PARAM2: 600v, -40~105°C; PARAM: 115A; VALUE: DG137T_15P0_06; Mount Type: THT; Type: Conn.
footprint DG137T_15P0_06 (Terminal Block Screw, Pitch 15mm, 115A/600v)
pins: 1, 2, 3, 4, 5, 6, A1 1, A2 2, A3 3, A4 4, A5 5, A6 6, B1 1, B2 2, B3 3, B4 4, B5 5, B6 6, C1 1, C2 2, C3 3, C4 4, C5 5, C6 6

## CONN_DG137T_15P0_07
designator J?, comment DG137T_15P0_07  (value not drawn)
Terminal Block Screw, Pitch 15mm, H 39mm, 600v/115A; MANF: DEGSON; MANF_P#: DG137T-15.0-07P, KF137T-15.0-7P, MKDSP 25/ 7-15,00; PARAM2: 600v, -40~105°C; PARAM: 115A; VALUE: DG137T_15P0_07; Mount Type: THT; Type: Conn.
footprint DG137T_15P0_07 (Terminal Block Screw, Pitch 15mm, 115A/600v)
pins: 1, 2, 3, 4, 5, 6, 7, A1 1, A2 2, A3 3, A4 4, A5 5, A6 6, A7 7, B1 1, B2 2, B3 3, B4 4, B5 5, B6 6, B7 7, C1 1, C2 2, C3 3, C4 4, C5 5, C6 6, C7 7

## CONN_DG137T_15P0_08
designator J?, comment DG137T_15P0_08  (value not drawn)
Terminal Block Screw, Pitch 15mm, H 39mm, 600v/115A; MANF: DEGSON; MANF_P#: DG137T-15.0-08P, KF137T-15.0-8P, MKDSP 25/ 8-15,00; PARAM2: 600v, -40~105°C; PARAM: 115A; VALUE: DG137T_15P0_08; Mount Type: THT; Type: Conn.
footprint DG137T_15P0_08 (Terminal Block Screw, Pitch 15mm, 115A/600v)
pins: 1, 2, 3, 4, 5, 6, 7, 8, A1 1, A2 2, A3 3, A4 4, A5 5, A6 6, A7 7, A8 8, B1 1, B2 2, B3 3, B4 4, B5 5, B6 6, B7 7, B8 8, C1 1, C2 2, C3 3, C4 4, C5 5, C6 6, C7 7, C8 8

## CONN_DG137T_15P0_09
designator J?, comment DG137T_15P0_09  (value not drawn)
Terminal Block Screw, Pitch 15mm, H 39mm, 600v/115A; MANF: DEGSON; MANF_P#: DG137T-15.0-09P, KF137T-15.0-9P, MKDSP 25/ 9-15,00; PARAM2: 600v, -40~105°C; PARAM: 115A; VALUE: DG137T_15P0_09; Mount Type: THT; Type: Conn.
footprint DG137T_15P0_09 (Terminal Block Screw, Pitch 15mm, 115A/600v)
pins: 1, 2, 3, 4, 5, 6, 7, 8, 9, A1 1, A2 2, A3 3, A4 4, A5 5, A6 6, A7 7, A8 8, A9 9, B1 1, B2 2, B3 3, B4 4, B5 5, B6 6, B7 7, B8 8, B9 9, C1 1, C2 2, C3 3, C4 4, C5 5, C6 6, C7 7, C8 8, C9 9

## CONN_DG137T_15P0_10
designator J?, comment DG137T_15P0_10  (value not drawn)
Terminal Block Screw, Pitch 15mm, H 39mm, 600v/115A; MANF: DEGSON; MANF_P#: DG137T-15.0-10P, KF137T-15.0-10P, MKDSP 25/ 10-15,00; PARAM2: 600v, -40~105°C; PARAM: 115A; VALUE: DG137T_15P0_10; Mount Type: THT; Type: Conn.
footprint DG137T_15P0_10 (Terminal Block Screw, Pitch 15mm, 115A/600v)
pins: 1, 2, 3, 4, 5, 6, 7, 8, 9, 10, A1 1, A2 2, A3 3, A4 4, A5 5, A6 6, A7 7, A8 8, A9 9, A10 10, B1 1, B2 2, B3 3, B4 4, B5 5, B6 6, B7 7, B8 8, B9 9, B10 10, C1 1, C2 2, C3 3, C4 4, C5 5, C6 6, C7 7, C8 8, C9 9, C10 10

## CONN_DG141R_02
designator J?, comment DG141R_02  (value not drawn)
Terminal Block Spring, Pitch 2.54mm; MANF: DEGSON; MANF_P#: DG141R-2.54-02P; PARAM2: 130v, -40~105°C; PARAM: 6A, Horizontal; VALUE: DG141R_02; Mount Type: THT; Type: Conn.
footprint DG141R_02 (Terminal Block Spring, Pitch 2.54mm, Green)
pins: 1, 2

## CONN_DG141R_03
designator J?, comment DG141R_03  (value not drawn)
Terminal Block Spring, Pitch 2.54mm; MANF: DEGSON; MANF_P#: DG141R-2.54-03P; PARAM2: 130v, -40~105°C; PARAM: 6A, Horizontal; VALUE: DG141R_03; Mount Type: THT; Type: Conn.
footprint DG141R_03 (Terminal Block Spring, Pitch 2.54mm, Green)
pins: 1, 2, 3

## CONN_DG141R_04
designator J?, comment DG141R_04  (value not drawn)
Terminal Block Spring, Pitch 2.54mm; MANF: DEGSON; MANF_P#: DG141R-2.54-04P; PARAM2: 130v, -40~105°C; PARAM: 6A, Horizontal; VALUE: DG141R_04; Mount Type: THT; Type: Conn.
footprint DG141R_04 (Terminal Block Spring, Pitch 2.54mm, Green)
pins: 1, 2, 3, 4

## CONN_DG141R_05
designator J?, comment DG141R_05  (value not drawn)
Terminal Block Spring, Pitch 2.54mm; MANF: DEGSON; MANF_P#: DG141R-2.54-05P; PARAM2: 130v, -40~105°C; PARAM: 6A, Horizontal; VALUE: DG141R_05; Mount Type: THT; Type: Conn.
footprint DG141R_05 (Terminal Block Spring, Pitch 2.54mm, Green)
pins: 1, 2, 3, 4, 5

## CONN_DG141R_06
designator J?, comment DG141R_06  (value not drawn)
Terminal Block Spring, Pitch 2.54mm; MANF: DEGSON; MANF_P#: DG141R-2.54-06P; PARAM2: 130v, -40~105°C; PARAM: 6A, Horizontal; VALUE: DG141R_06; Mount Type: THT; Type: Conn.
footprint DG141R_06 (Terminal Block Spring, Pitch 2.54mm, Green)
pins: 1, 2, 3, 4, 5, 6

## CONN_DG141R_07
designator J?, comment DG141R_07  (value not drawn)
Terminal Block Spring, Pitch 2.54mm; MANF: DEGSON; MANF_P#: DG141R-2.54-07P; PARAM2: 130v, -40~105°C; PARAM: 6A, Horizontal; VALUE: DG141R_07; Mount Type: THT; Type: Conn.
footprint DG141R_07 (Terminal Block Spring, Pitch 2.54mm, Green)
pins: 1, 2, 3, 4, 5, 6, 7

## CONN_DG141R_08
designator J?, comment DG141R_08  (value not drawn)
Terminal Block Spring, Pitch 2.54mm; MANF: DEGSON; MANF_P#: DG141R-2.54-08P; PARAM2: 130v, -40~105°C; PARAM: 6A, Horizontal; VALUE: DG141R_08; Mount Type: THT; Type: Conn.
footprint DG141R_08 (Terminal Block Spring, Pitch 2.54mm, Green)
pins: 1, 2, 3, 4, 5, 6, 7, 8

## CONN_DG141R_09
designator J?, comment DG141R_09  (value not drawn)
Terminal Block Spring, Pitch 2.54mm; MANF: DEGSON; MANF_P#: DG141R-2.54-09P; PARAM2: 130v, -40~105°C; PARAM: 6A, Horizontal; VALUE: DG141R_09; Mount Type: THT; Type: Conn.
footprint DG141R_09 (Terminal Block Spring, Pitch 2.54mm, Green)
pins: 1, 2, 3, 4, 5, 6, 7, 8, 9

## CONN_DG141R_10
designator J?, comment DG141R_10  (value not drawn)
Terminal Block Spring, Pitch 2.54mm; MANF: DEGSON; MANF_P#: DG141R-2.54-10P; PARAM2: 130v, -40~105°C; PARAM: 6A, Horizontal; VALUE: DG141R_10; Mount Type: THT; Type: Conn.
footprint DG141R_10 (Terminal Block Spring, Pitch 2.54mm, Green)
pins: 1, 2, 3, 4, 5, 6, 7, 8, 9, 10

## CONN_DG141V_02
designator J?, comment DG141V_02  (value not drawn)
Terminal Block Spring, Pitch 2.54mm, Vertical; MANF: DEGSON; MANF_P#: DG141V-2.54-02P; PARAM2: 130v, -40~105°C; PARAM: 6A, Horizontal; VALUE: DG141V_02; Mount Type: THT; Type: Conn.
footprint DG141V_02 (Terminal Block Spring, Pitch 2.54mm, Green)
pins: 1, 2

## CONN_DG141V_03
designator J?, comment DG141V_03  (value not drawn)
Terminal Block Spring, Pitch 2.54mm, Vertical; MANF: DEGSON; MANF_P#: DG141V-2.54-03P; PARAM2: 130v, -40~105°C; PARAM: 6A, Horizontal; VALUE: DG141V_03; Mount Type: THT; Type: Conn.
footprint DG141V_03 (Terminal Block Spring, Pitch 2.54mm, Green)
pins: 1, 2, 3

## CONN_DG141V_04
designator J?, comment DG141V_04  (value not drawn)
Terminal Block Spring, Pitch 2.54mm, Vertical; MANF: DEGSON; MANF_P#: DG141V-2.54-04P; PARAM2: 130v, -40~105°C; PARAM: 6A, Horizontal; VALUE: DG141V_04; Mount Type: THT; Type: Conn.
footprint DG141V_04 (Terminal Block Spring, Pitch 2.54mm, Green)
pins: 1, 2, 3, 4

## CONN_DG141V_05
designator J?, comment DG141V_05  (value not drawn)
Terminal Block Spring, Pitch 2.54mm, Vertical; MANF: DEGSON; MANF_P#: DG141V-2.54-05P; PARAM2: 130v, -40~105°C; PARAM: 6A, Horizontal; VALUE: DG141V_05; Mount Type: THT; Type: Conn.
footprint DG141V_05 (Terminal Block Spring, Pitch 2.54mm, Green)
pins: 1, 2, 3, 4, 5

## CONN_DG141V_06
designator J?, comment DG141V_06  (value not drawn)
Terminal Block Spring, Pitch 2.54mm, Vertical; MANF: DEGSON; MANF_P#: DG141V-2.54-06P; PARAM2: 130v, -40~105°C; PARAM: 6A, Horizontal; VALUE: DG141V_06; Mount Type: THT; Type: Conn.
footprint DG141V_06 (Terminal Block Spring, Pitch 2.54mm, Green)
pins: 1, 2, 3, 4, 5, 6

## CONN_DG141V_07
designator J?, comment DG141V_07  (value not drawn)
Terminal Block Spring, Pitch 2.54mm, Vertical; MANF: DEGSON; MANF_P#: DG141V-2.54-07P; PARAM2: 130v, -40~105°C; PARAM: 6A, Horizontal; VALUE: DG141V_07; Mount Type: THT; Type: Conn.
footprint DG141V_07 (Terminal Block Spring, Pitch 2.54mm, Green)
pins: 1, 2, 3, 4, 5, 6, 7

## CONN_DG141V_08
designator J?, comment DG141V_08  (value not drawn)
Terminal Block Spring, Pitch 2.54mm, Vertical; MANF: DEGSON; MANF_P#: DG141V-2.54-08P; PARAM2: 130v, -40~105°C; PARAM: 6A, Horizontal; VALUE: DG141V_08; Mount Type: THT; Type: Conn.
footprint DG141V_08 (Terminal Block Spring, Pitch 2.54mm, Green)
pins: 1, 2, 3, 4, 5, 6, 7, 8

## CONN_DG141V_09
designator J?, comment DG141V_09  (value not drawn)
Terminal Block Spring, Pitch 2.54mm, Vertical; MANF: DEGSON; MANF_P#: DG141V-2.54-09P; PARAM2: 130v, -40~105°C; PARAM: 6A, Horizontal; VALUE: DG141V_09; Mount Type: THT; Type: Conn.
footprint DG141V_09 (Terminal Block Spring, Pitch 2.54mm, Green)
pins: 1, 2, 3, 4, 5, 6, 7, 8, 9

## CONN_DG141V_10
designator J?, comment DG141V_10  (value not drawn)
Terminal Block Spring, Pitch 2.54mm, Vertical; MANF: DEGSON; MANF_P#: DG141V-2.54-10P; PARAM2: 130v, -40~105°C; PARAM: 6A, Horizontal; VALUE: DG141V_10; Mount Type: THT; Type: Conn.
footprint DG141V_10 (Terminal Block Spring, Pitch 2.54mm, Green)
pins: 1, 2, 3, 4, 5, 6, 7, 8, 9, 10

## CONN_DG166_02
designator J?, comment DG166_5P0_02  (value not drawn)
Terminal Block Screw, Pitch 5mm, H 12.9mm; MANF: DEGSON; MANF_P#: DG166-5.0-02P, KF166-5.0-2P; PARAM2: 250v, -40~105°C; PARAM: 15A; VALUE: DG166_5P0_02; Mount Type: THT; Type: Conn.
footprint DG166_02 (Terminal Screw, Pitch 5mm)
pins: 1, 2

## CONN_DG166_03
designator J?, comment DG166_5P0_03  (value not drawn)
Terminal Block Screw, Pitch 5mm, H 12.9mm; MANF: DEGSON; MANF_P#: DG166-5.0-03P, KF166-5.0-3P; PARAM2: 250v, -40~105°C; PARAM: 15A; VALUE: DG166_5P0_03; Mount Type: THT; Type: Conn.
footprint DG166_03 (Terminal Screw, Pitch 5mm)
pins: 1, 2, 3

## CONN_DG166_04
designator J?, comment DG166_5P0_04  (value not drawn)
Terminal Block Screw, Pitch 5mm, H 12.9mm; MANF: DEGSON; MANF_P#: DG166-5.0-04P, KF166-5.0-4P; PARAM2: 250v, -40~105°C; PARAM: 15A; VALUE: DG166_5P0_04; Mount Type: THT; Type: Conn.
footprint DG166_04 (Terminal Screw, Pitch 5mm)
pins: 1, 2, 3, 4

## CONN_DG166_05
designator J?, comment DG166_5P0_05  (value not drawn)
Terminal Block Screw, Pitch 5mm, H 12.9mm; MANF: DEGSON; MANF_P#: DG166-5.0-05P, KF166-5.0-5P; PARAM2: 250v, -40~105°C; PARAM: 15A; VALUE: DG166_5P0_05; Mount Type: THT; Type: Conn.
footprint DG166_05 (Terminal Screw, Pitch 5mm)
pins: 1, 2, 3, 4, 5

## CONN_DG166_06
designator J?, comment DG166_5P0_06  (value not drawn)
Terminal Block Screw, Pitch 5mm, H 12.9mm; MANF: DEGSON; MANF_P#: DG166-5.0-06P, KF166-5.0-6P; PARAM2: 250v, -40~105°C; PARAM: 15A; VALUE: DG166_5P0_06; Mount Type: THT; Type: Conn.
footprint DG166_06 (Terminal Screw, Pitch 5mm)
pins: 1, 2, 3, 4, 5, 6

## CONN_DG166_07
designator J?, comment DG166_5P0_07  (value not drawn)
Terminal Block Screw, Pitch 5mm, H 12.9mm; MANF: DEGSON; MANF_P#: DG166-5.0-07P, KF166-5.0-7P; PARAM2: 250v, -40~105°C; PARAM: 15A; VALUE: DG166_5P0_07; Mount Type: THT; Type: Conn.
footprint DG166_07 (Terminal Screw, Pitch 5mm)
pins: 1, 2, 3, 4, 5, 6, 7

## CONN_DG166_08
designator J?, comment DG166_5P0_08  (value not drawn)
Terminal Block Screw, Pitch 5mm, H 12.9mm; MANF: DEGSON; MANF_P#: DG166-5.0-08P, KF166-5.0-8P; PARAM2: 250v, -40~105°C; PARAM: 15A; VALUE: DG166_5P0_08; Mount Type: THT; Type: Conn.
footprint DG166_08 (Terminal Screw, Pitch 5mm)
pins: 1, 2, 3, 4, 5, 6, 7, 8

## CONN_DG166_09
designator J?, comment DG166_5P0_09  (value not drawn)
Terminal Block Screw, Pitch 5mm, H 12.9mm; MANF: DEGSON; MANF_P#: DG166-5.0-09P, KF166-5.0-9P; PARAM2: 250v, -40~105°C; PARAM: 15A; VALUE: DG166_5P0_09; Mount Type: THT; Type: Conn.
footprint DG166_09 (Terminal Screw, Pitch 5mm)
pins: 1, 2, 3, 4, 5, 6, 7, 8, 9

## CONN_DG166_10
designator J?, comment DG166_5P0_10  (value not drawn)
Terminal Block Screw, Pitch 5mm, H 12.9mm; MANF: DEGSON; MANF_P#: DG166-5.0-10P, KF166-5.0-10P; PARAM2: 250v, -40~105°C; PARAM: 15A; VALUE: DG166_5P0_10; Mount Type: THT; Type: Conn.
footprint DG166_10 (Terminal Screw, Pitch 5mm)
pins: 1, 2, 3, 4, 5, 6, 7, 8, 9, 10

## CONN_DG167_7P62_02
designator J?, comment DG167_7P62_02  (value not drawn)
Terminal Block Screw, Pitch 7.62mm, H 13.7mm; MANF: DEGSON; MANF_P#: DG167-7.62-02P; PARAM2: 300v, -40~105°C; PARAM: 15A; VALUE: DG167_7P62_02; Mount Type: THT; Type: Conn.
footprint DG167_7P62_02 (Terminal Screw, pitch 7.62mm, H 13.7mm)
pins: 1, 2

## CONN_DG167_7P62_03
designator J?, comment DG167_7P62_03  (value not drawn)
Terminal Block Screw, Pitch 7.62mm, H 13.7mm; MANF: DEGSON; MANF_P#: DG167-7.62-03P; PARAM2: 300v, -40~105°C; PARAM: 15A; VALUE: DG167_7P62_03; Mount Type: THT; Type: Conn.
footprint DG167_7P62_03 (Terminal Screw, pitch 7.62mm, H 13.7mm)
pins: 1, 2, 3

## CONN_DG167_7P62_04
designator J?, comment DG167_7P62_04  (value not drawn)
Terminal Block Screw, Pitch 7.62mm, H 13.7mm; MANF: DEGSON; MANF_P#: DG167-7.62-04P; PARAM2: 300v, -40~105°C; PARAM: 15A; VALUE: DG167_7P62_04; Mount Type: THT; Type: Conn.
footprint DG167_7P62_04 (Terminal Screw, pitch 7.62mm, H 13.7mm)
pins: 1, 2, 3, 4

## CONN_DG167_7P62_05
designator J?, comment DG167_7P62_05  (value not drawn)
Terminal Block Screw, Pitch 7.62mm, H 13.7mm; MANF: DEGSON; MANF_P#: DG167-7.62-05P; PARAM2: 300v, -40~105°C; PARAM: 15A; VALUE: DG167_7P62_05; Mount Type: THT; Type: Conn.
footprint DG167_7P62_05 (Terminal Screw, pitch 7.62mm, H 13.7mm)
pins: 1, 2, 3, 4, 5

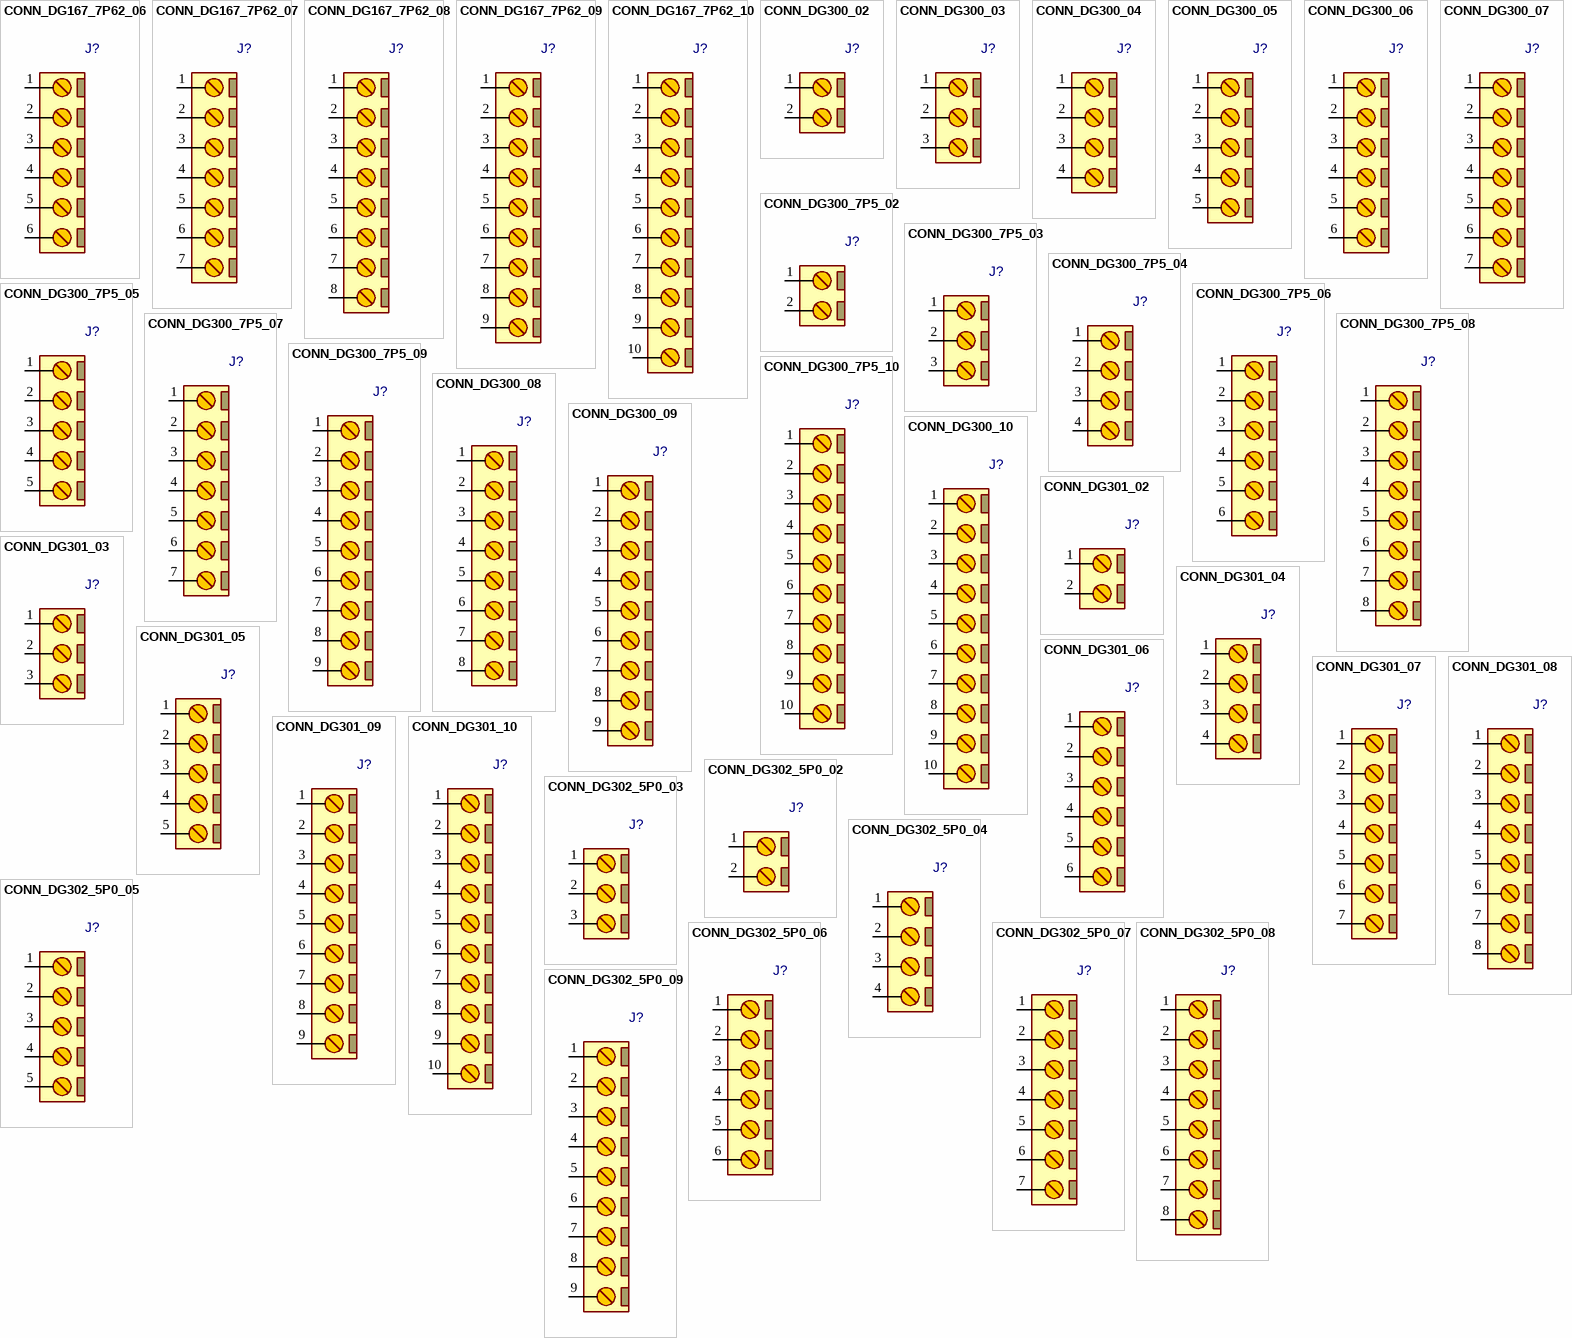
[diagram p6: symbols CONN_DG167_7P62_06 to CONN_DG302_5P0_09]

## CONN_DG167_7P62_06
designator J?, comment DG167_7P62_06  (value not drawn)
Terminal Block Screw, Pitch 7.62mm, H 13.7mm; MANF: DEGSON; MANF_P#: DG167-7.62-06P; PARAM2: 300v, -40~105°C; PARAM: 15A; VALUE: DG167_7P62_06; Mount Type: THT; Type: Conn.
footprint DG167_7P62_06 (Terminal Screw, pitch 7.62mm, H 13.7mm)
pins: 1, 2, 3, 4, 5, 6

## CONN_DG167_7P62_07
designator J?, comment DG167_7P62_07  (value not drawn)
Terminal Block Screw, Pitch 7.62mm, H 13.7mm; MANF: DEGSON; MANF_P#: DG167-7.62-07P; PARAM2: 300v, -40~105°C; PARAM: 15A; VALUE: DG167_7P62_07; Mount Type: THT; Type: Conn.
footprint DG167_7P62_07 (Terminal Screw, pitch 7.62mm, H 13.7mm)
pins: 1, 2, 3, 4, 5, 6, 7

## CONN_DG167_7P62_08
designator J?, comment DG167_7P62_08  (value not drawn)
Terminal Block Screw, Pitch 7.62mm, H 13.7mm; MANF: DEGSON; MANF_P#: DG167-7.62-08P; PARAM2: 300v, -40~105°C; PARAM: 15A; VALUE: DG167_7P62_08; Mount Type: THT; Type: Conn.
footprint DG167_7P62_08 (Terminal Screw, pitch 7.62mm, H 13.7mm)
pins: 1, 2, 3, 4, 5, 6, 7, 8

## CONN_DG167_7P62_09
designator J?, comment DG167_7P62_09  (value not drawn)
Terminal Block Screw, Pitch 7.62mm, H 13.7mm; MANF: DEGSON; MANF_P#: DG167-7.62-09P; PARAM2: 300v, -40~105°C; PARAM: 15A; VALUE: DG167_7P62_09; Mount Type: THT; Type: Conn.
footprint DG167_7P62_09 (Terminal Screw, pitch 7.62mm, H 13.7mm)
pins: 1, 2, 3, 4, 5, 6, 7, 8, 9

## CONN_DG167_7P62_10
designator J?, comment DG167_7P62_10  (value not drawn)
Terminal Block Screw, Pitch 7.62mm, H 13.7mm; MANF: DEGSON; MANF_P#: DG167-7.62-10P; PARAM2: 300v, -40~105°C; PARAM: 15A; VALUE: DG167_7P62_10; Mount Type: THT; Type: Conn.
footprint DG167_7P62_10 (Terminal Screw, pitch 7.62mm, H 13.7mm)
pins: 1, 2, 3, 4, 5, 6, 7, 8, 9, 10

## CONN_DG300_02
designator J?, comment DG300_5P0_02  (value not drawn)
Terminal Block Screw, Pitch 5mm, H 12.6mm; MANF: DEGSON; MANF_P#: DG300-5.0-02P, KF300-5.0-2P; PARAM2: 250v, -40~105°C; PARAM: 10A; VALUE: DG300_5P0_02; Mount Type: THT; Type: Conn.
footprint DG300_5P0_02 (Terminal Screw, Pitch 5mm, H 13.5mm)
pins: 1, 2

## CONN_DG300_03
designator J?, comment DG300_5P0_03  (value not drawn)
Terminal Block Screw, Pitch 5mm, H 12.6mm; MANF: DEGSON; MANF_P#: DG300-5.0-03P, KF300-5.0-3P; PARAM2: 250v, -40~105°C; PARAM: 10A; VALUE: DG300_5P0_03; Mount Type: THT; Type: Conn.
footprint DG300_5P0_03 (Terminal Screw, Pitch 5mm, H 12.6mm)
pins: 1, 2, 3

## CONN_DG300_04
designator J?, comment DG300_5P0_04  (value not drawn)
Terminal Block Screw, Pitch 5mm, H 12.6mm; MANF: DEGSON; MANF_P#: DG300-5.0-04P, KF300-5.0-4P; PARAM2: 250v, -40~105°C; PARAM: 10A; VALUE: DG300_5P0_04; Mount Type: THT; Type: Conn.
footprint DG300_5P0_04 (Terminal Screw, Pitch 5mm, H 12.6mm)
pins: 1, 2, 3, 4

## CONN_DG300_05
designator J?, comment DG300_5P0_05  (value not drawn)
Terminal Block Screw, Pitch 5mm, H 12.6mm; MANF: DEGSON; MANF_P#: DG300-5.0-05P, KF300-5.0-5P; PARAM2: 250v, -40~105°C; PARAM: 10A; VALUE: DG300_5P0_05; Mount Type: THT; Type: Conn.
footprint DG300_5P0_05 (Terminal Screw, Pitch 5mm, H 12.6mm)
pins: 1, 2, 3, 4, 5

## CONN_DG300_06
designator J?, comment DG300_5P0_06  (value not drawn)
Terminal Block Screw, Pitch 5mm, H 12.6mm; MANF: DEGSON; MANF_P#: DG300-5.0-06P, KF300-5.0-6P; PARAM2: 250v, -40~105°C; PARAM: 10A; VALUE: DG300_5P0_06; Mount Type: THT; Type: Conn.
footprint DG300_5P0_06 (Terminal Screw, Pitch 5mm, H 12.6mm)
pins: 1, 2, 3, 4, 5, 6

## CONN_DG300_07
designator J?, comment DG300_5P0_07  (value not drawn)
Terminal Block Screw, Pitch 5mm, H 12.6mm; MANF: DEGSON; MANF_P#: DG300-5.0-07P, KF300-5.0-7P; PARAM2: 250v, -40~105°C; PARAM: 10A; VALUE: DG300_5P0_07; Mount Type: THT; Type: Conn.
footprint DG300_5P0_07 (Terminal Screw, Pitch 5mm, H 12.6mm)
pins: 1, 2, 3, 4, 5, 6, 7

## CONN_DG300_7P5_02
designator J?, comment DG300_7P5_02  (value not drawn)
Terminal Block Screw, Pitch 7.5mm, H 12.6mm; MANF: DEGSON; MANF_P#: DG300-7.5-02P; PARAM2: 300v, -40~105°C; PARAM: 10A; VALUE: DG300_7P5_02; Mount Type: THT; Type: Conn.
footprint DG300_7P5_02 (Terminal B screw, Pitch 7.5mm, H 12.6mm)
pins: 1, 2

## CONN_DG300_7P5_03
designator J?, comment DG300_7P5_03  (value not drawn)
Terminal Block Screw, Pitch 7.5mm, H 12.6mm; MANF: DEGSON; MANF_P#: DG300-7.5-03P; PARAM2: 300v, -40~105°C; PARAM: 10A; VALUE: DG300_7P5_03; Mount Type: THT; Type: Conn.
footprint DG300_7P5_03 (Terminal B screw, Pitch 7.5mm, H 12.6mm)
pins: 1, 2, 3

## CONN_DG300_7P5_04
designator J?, comment DG300_7P5_04  (value not drawn)
Terminal Block Screw, Pitch 7.5mm, H 12.6mm; MANF: DEGSON; MANF_P#: DG300-7.5-04P; PARAM2: 300v, -40~105°C; PARAM: 10A; VALUE: DG300_7P5_04; Mount Type: THT; Type: Conn.
footprint DG300_7P5_04 (Terminal B screw, Pitch 7.5mm, H 12.6mm)
pins: 1, 2, 3, 4

## CONN_DG300_7P5_05
designator J?, comment DG300_7P5_05  (value not drawn)
Terminal Block Screw, Pitch 7.5mm, H 12.6mm; MANF: DEGSON; MANF_P#: DG300-7.5-05P; PARAM2: 300v, -40~105°C; PARAM: 10A; VALUE: DG300_7P5_05; Mount Type: THT; Type: Conn.
footprint DG300_7P5_05 (Terminal B screw, Pitch 7.5mm, H 12.6mm)
pins: 1, 2, 3, 4, 5

## CONN_DG300_7P5_06
designator J?, comment DG300_7P5_06  (value not drawn)
Terminal Block Screw, Pitch 7.5mm, H 12.6mm; MANF: DEGSON; MANF_P#: DG300-7.5-06P; PARAM2: 300v, -40~105°C; PARAM: 10A; VALUE: DG300_7P5_06; Mount Type: THT; Type: Conn.
footprint DG300_7P5_06 (Terminal B screw, Pitch 7.5mm, H 12.6mm)
pins: 1, 2, 3, 4, 5, 6

## CONN_DG300_7P5_07
designator J?, comment DG300_7P5_07  (value not drawn)
Terminal Block Screw, Pitch 7.5mm, H 12.6mm; MANF: DEGSON; MANF_P#: DG300-7.5-07P; PARAM2: 300v, -40~105°C; PARAM: 10A; VALUE: DG300_7P5_07; Mount Type: THT; Type: Conn.
footprint DG300_7P5_07 (Terminal B screw, Pitch 7.5mm, H 12.6mm)
pins: 1, 2, 3, 4, 5, 6, 7

## CONN_DG300_7P5_08
designator J?, comment DG300_7P5_08  (value not drawn)
Terminal Block Screw, Pitch 7.5mm, H 12.6mm; MANF: DEGSON; MANF_P#: DG300-7.5-08P; PARAM2: 300v, -40~105°C; PARAM: 10A; VALUE: DG300_7P5_08; Mount Type: THT; Type: Conn.
footprint DG300_7P5_08 (Terminal B screw, Pitch 7.5mm, H 12.6mm)
pins: 1, 2, 3, 4, 5, 6, 7, 8